# Altium integrated library Silicon Labs Energy Micro EFM32.IntLib: 240 symbols (part 3 of 34)
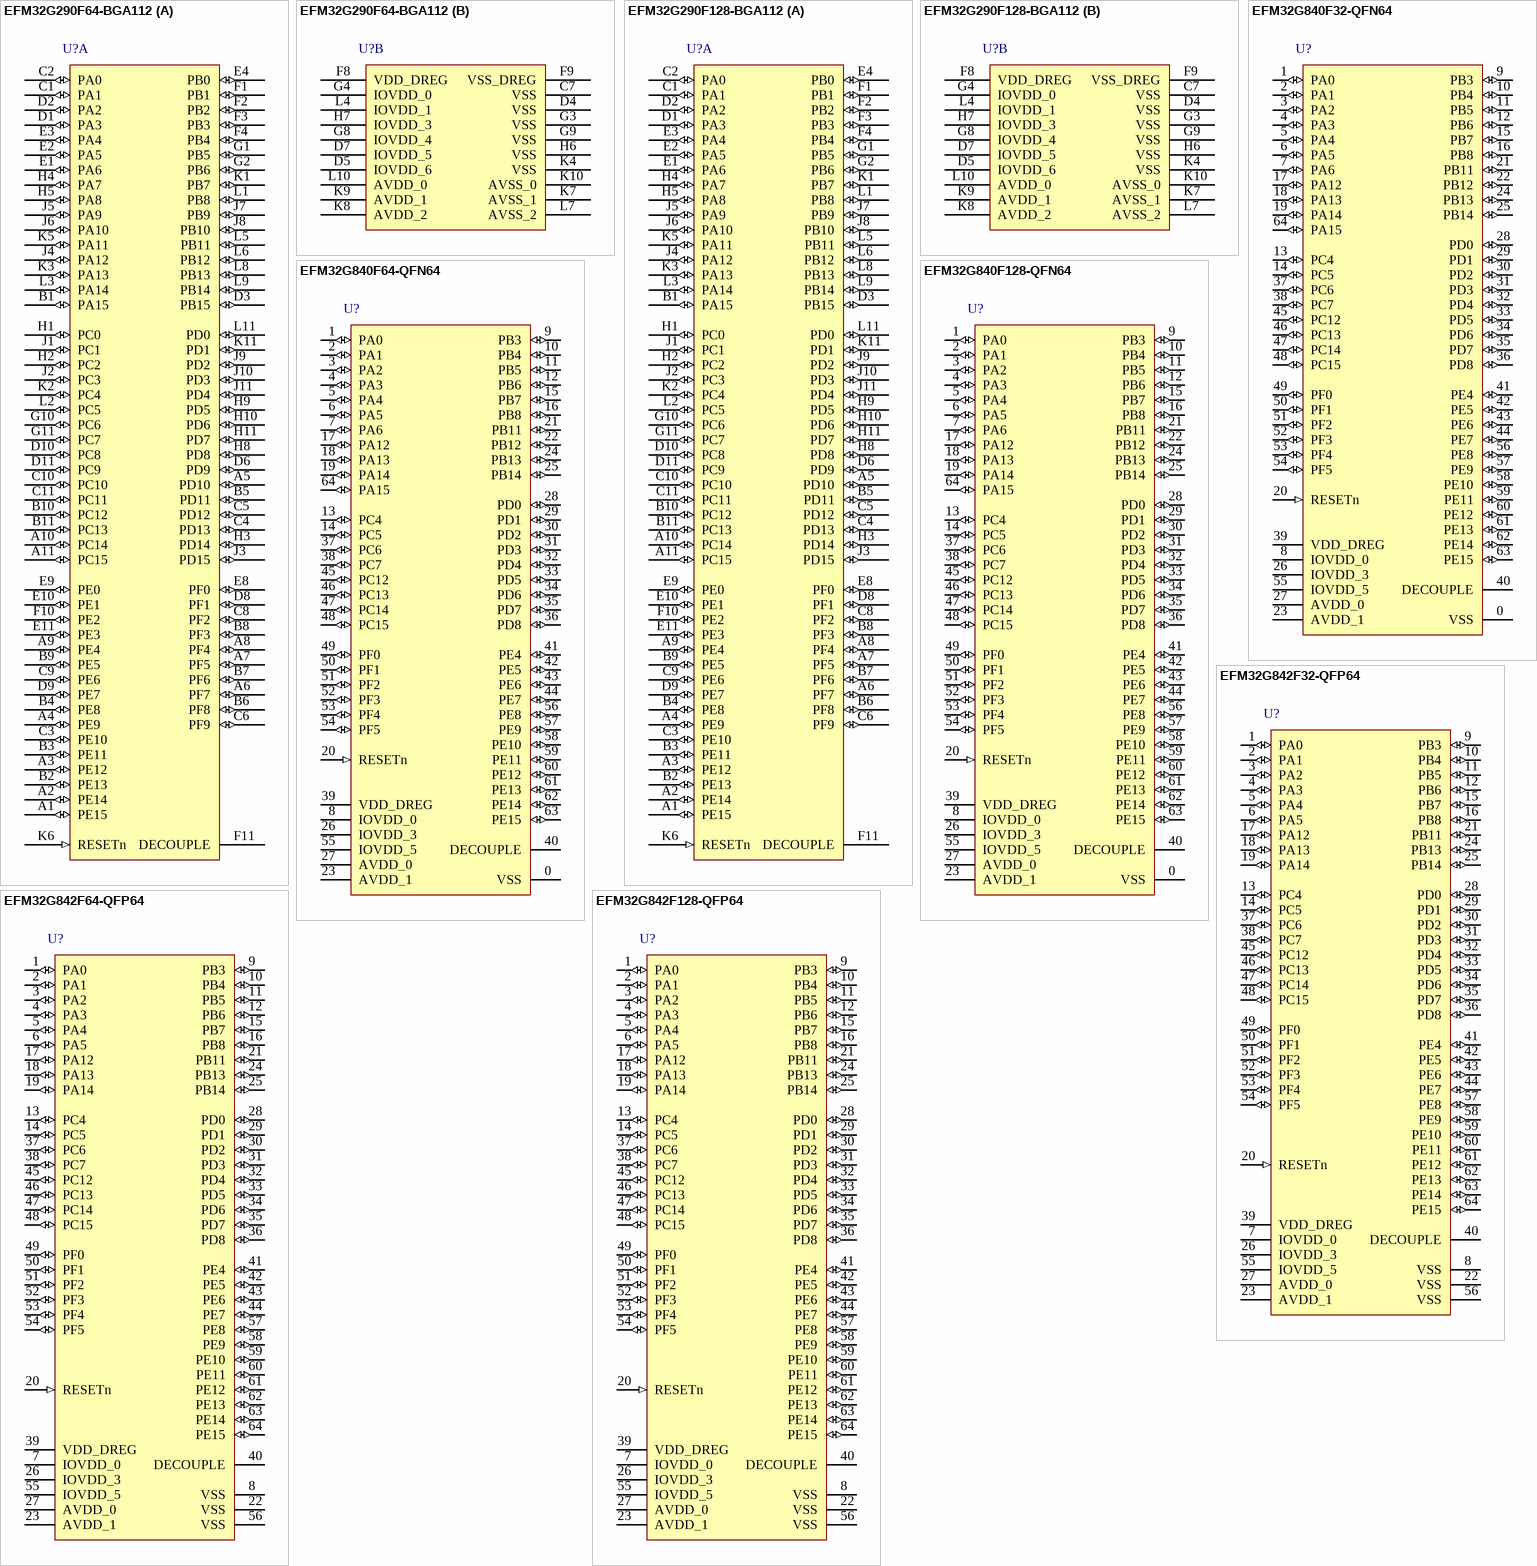
[diagram p40: symbols EFM32G290F64-BGA112 to EFM32G842F128-QFP64]

## EFM32G842F32-QFP64
designator U?
EFM32 Gecko, M3 ARM Cortex CPU, 32 KB Flash, 8 KB RAM, 1.85 - 3.8 V Supply, 32 MHz Max Speed, -40 to 85 degC, 64-Pin TQFP, RoHS Compliant; Generic Part Number: EFM32G842; PartNumber: EFM32G842F32-QFP64; ADC: Y; Flash (KB): 32; GPIO: 53; LCD: 4x24; RAM (KB): 8; DatasheetVersion: Rev 1.50; PackageVersion: Rev. 98SPP64023A_XO1_17MAR2011; PackageReference: TQFP64; PackageDescription: 64-Pin Quad Flat Package, Body 10 x 10 mm, Pitch 0.5 mm; Supplier 1: Digi-Key; Supplier Part Number 1: EFM32G842F32-ND; Supplier 2: Mouser; Supplier Part Number 2: 904-EFM32G842F32; AES: Y; ARM Cortex CPU: M3; Max Speed (MHz): 32; Subcategory: EFM32 Gecko; Supply Voltage (V): 1.85 - 3.8; Mounting Technology: Surface Mount; ComponentLink1Description: Manufacturer URL; ComponentLink1URL: http://www.energymicro.com/; ComponentLink2Description: Datasheet; ComponentLink2URL: http://cdn.energymicro.com/dl/devices/pdf/d0070_efm32g842_datasheet.pdf; ComponentLink3Description: Package Specification; ComponentLink3URL: http://cdn.energymicro.com/dl/devices/pdf/d0070_efm32g842_datasheet.pdf
footprint ENMR-TQFP64_N (QFP, 64-Leads, Body 10x10mm, Pitch 0.5mm, IPC Medium Density)
footprint ENMR-TQFP64_L (QFP, 64-Leads, Body 10x10mm, Pitch 0.5mm, IPC High Density)
footprint ENMR-TQFP64_M (QFP, 64-Leads, Body 10x10mm, Pitch 0.5mm, IPC Low Density)
pins: 1 PA0 (io) "LCD_SEG13, TIM0_CC0#0/1, I2C0_SDA#0", 2 PA1 (io) "LCD_SEG14, TIM0_CC1#0/1, I2C0_SCL#0, CMU_CLK1#0", 3 PA2 (io) "LCD_SEG15, TIM0_CC2#0/1, CMU_CLK0#0", 4 PA3 (io) "LCD_SEG16, TIM0_CDTI0#0", 5 PA4 (io) "LCD_SEG17, TIM0_CDTI1#0", 6 PA5 (io) "LCD_SEG18, TIM0_CDTI2#0, LEU1_TX#1", 7 IOVDD_0 (power) "Digital IO power supply 0.", 8 VSS (power) "Ground", 9 PB3 (io) "LCD_SEG20, PCNT1_S0IN#1, US2_TX#1", 10 PB4 (io) "LCD_SEG21, PCNT1_S1IN#1, US2_RX#1", 11 PB5 (io) "LCD_SEG22, US2_CLK#1", 12 PB6 (io) "LCD_SEG23, US2_CS#1", 13 PC4 (io) "ACMP0_CH4, LETIM0_OUT0#3, PCNT1_S0IN#0, US2_CLK#0", 14 PC5 (io) "ACMP0_CH5, LETIM0_OUT1#3, PCNT1_S1IN#0, US2_CS#0", 15 PB7 (io) "LFXTAL_P, US1_CLK#0", 16 PB8 (io) "LFXTAL_N, US1_CS#0", 17 PA12 (io) "LCD_BCAP_P, TIM2_CC0#1", 18 PA13 (io) "LCD_BCAP_N, TIM2_CC1#1", 19 PA14 (io) "LCD_BEXT, TIM2_CC2#1", 20 RESETn (in) "Reset input. Active low, with internal pull-up.", 21 PB11 (io) "DAC0_OUT0, LETIM0_OUT0#1", 22 VSS (power) "Ground", 23 AVDD_1 (power) "Analog power supply 1.", 24 PB13 (io) "HFXTAL_P, LEU0_TX#1", 25 PB14 (io) "HFXTAL_N, LEU0_RX#1", 26 IOVDD_3 (power) "Digital IO power supply 3.", 27 AVDD_0 (power) "Analog power supply 0.", 28 PD0 (io) "ADC0_CH0, PCNT2_S0IN#0, US1_TX#1", 29 PD1 (io) "ADC0_CH1, TIM0_CC0#3, PCNT2_S1IN#0, US1_RX#1", 30 PD2 (io) "ADC0_CH2, TIM0_CC1#3, US1_CLK#1", 31 PD3 (io) "ADC0_CH3, TIM0_CC2#3, US1_CS#1", 32 PD4 (io) "ADC0_CH4, LEU0_TX#0", 33 PD5 (io) "ADC0_CH5, LEU0_RX#0", 34 PD6 (io) "ADC0_CH6, LETIM0_OUT0#0, I2C0_SDA#1", 35 PD7 (io) "ADC0_CH7, LETIM0_OUT1#0, I2C0_SCL#1", 36 PD8 (io) "CMU_CLK1#1", 37 PC6 (io) "ACMP0_CH6, LEU1_TX#0, I2C0_SDA#2", 38 PC7 (io) "ACMP0_CH7, LEU1_RX#0, I2C0_SCL#2", 39 VDD_DREG (power) "Power supply for on-chip voltage regulator.", 40 DECOUPLE "Decouple output for on-chip voltage regulator. An external capacitance of size CDECOUPLE is required at this pin.", 41 PE4 (io) "LCD_COM0, US0_CS#1", 42 PE5 (io) "LCD_COM1, US0_CLK#1", 43 PE6 (io) "LCD_COM2, US0_RX#1", 44 PE7 (io) "LCD_COM3, US0_TX#1", 45 PC12 (io) "ACMP1_CH4, CMU_CLK0#1", 46 PC13 (io) "ACMP1_CH5, TIM0_CDTI0#1/3, TIM1_CC0#0, PCNT0_S0IN#0", 47 PC14 (io) "ACMP1_CH6, TIM0_CDTI1#1/3, TIM1_CC1#0, PCNT0_S1IN#0", 48 PC15 (io) "ACMP1_CH7, TIM0_CDTI2#1/3, TIM1_CC2#0, DBG_SWO#1", 49 PF0 (io) "LETIM0_OUT0#2, DBG_SWCLK#0/1", 50 PF1 (io) "LETIM0_OUT1#2, DBG_SWDIO#0/1", 51 PF2 (io) "LCD_SEG0, ACMP1_O#0, DBG_SWO#0", 52 PF3 (io) "LCD_SEG1, TIM0_CDTI0#2", 53 PF4 (io) "LCD_SEG2, TIM0_CDTI1#2", 54 PF5 (io) "LCD_SEG3, TIM0_CDTI2#2", 55 IOVDD_5 (power) "Digital IO power supply 5.", 56 VSS (power) "Ground", 57 PE8 (io) "LCD_SEG4, PCNT2_S0IN#1", 58 PE9 (io) "LCD_SEG5, PCNT2_S1IN#1", 59 PE10 (io) "LCD_SEG6, TIM1_CC0#1, US0_TX#0", 60 PE11 (io) "LCD_SEG7, TIM1_CC1#1, US0_RX#0", 61 PE12 (io) "LCD_SEG8, TIM1_CC2#1, US0_CLK#0", 62 PE13 (io) "LCD_SEG9, US0_CS#0, ACMP0_O#0", 63 PE14 (io) "LCD_SEG10, LEU0_TX#2", 64 PE15 (io) "LCD_SEG11, LEU0_RX#2"

## EFM32G842F64-QFP64
designator U?
EFM32 Gecko, M3 ARM Cortex CPU, 64 KB Flash, 16 KB RAM, 1.85 - 3.8 V Supply, 32 MHz Max Speed, -40 to 85 degC, 64-Pin TQFP, RoHS Compliant; Generic Part Number: EFM32G842; PartNumber: EFM32G842F64-QFP64; ADC: Y; Flash (KB): 64; GPIO: 53; LCD: 4x24; Max Speed (MHz): 32; RAM (KB): 16; DatasheetVersion: Rev 1.50; PackageVersion: Rev. 98SPP64023A_XO1_17MAR2011; PackageReference: TQFP64; PackageDescription: 64-Pin Quad Flat Package, Body 10 x 10 mm, Pitch 0.5 mm; Supplier 1: Digi-Key; Supplier Part Number 1: EFM32G842F64-ND; Supplier 2: Mouser; Supplier Part Number 2: 904-EFM32G842F64; AES: Y; ARM Cortex CPU: M3; Subcategory: EFM32 Gecko; Supply Voltage (V): 1.85 - 3.8; Mounting Technology: Surface Mount; ComponentLink1Description: Manufacturer URL; ComponentLink1URL: http://www.energymicro.com/; ComponentLink2Description: Datasheet; ComponentLink2URL: http://cdn.energymicro.com/dl/devices/pdf/d0070_efm32g842_datasheet.pdf; ComponentLink3Description: Package Specification; ComponentLink3URL: http://cdn.energymicro.com/dl/devices/pdf/d0070_efm32g842_datasheet.pdf
footprint ENMR-TQFP64_N (QFP, 64-Leads, Body 10x10mm, Pitch 0.5mm, IPC Medium Density)
footprint ENMR-TQFP64_L (QFP, 64-Leads, Body 10x10mm, Pitch 0.5mm, IPC High Density)
footprint ENMR-TQFP64_M (QFP, 64-Leads, Body 10x10mm, Pitch 0.5mm, IPC Low Density)
pins: 1 PA0 (io) "LCD_SEG13, TIM0_CC0#0/1, I2C0_SDA#0", 2 PA1 (io) "LCD_SEG14, TIM0_CC1#0/1, I2C0_SCL#0, CMU_CLK1#0", 3 PA2 (io) "LCD_SEG15, TIM0_CC2#0/1, CMU_CLK0#0", 4 PA3 (io) "LCD_SEG16, TIM0_CDTI0#0", 5 PA4 (io) "LCD_SEG17, TIM0_CDTI1#0", 6 PA5 (io) "LCD_SEG18, TIM0_CDTI2#0, LEU1_TX#1", 7 IOVDD_0 (power) "Digital IO power supply 0.", 8 VSS (power) "Ground", 9 PB3 (io) "LCD_SEG20, PCNT1_S0IN#1, US2_TX#1", 10 PB4 (io) "LCD_SEG21, PCNT1_S1IN#1, US2_RX#1", 11 PB5 (io) "LCD_SEG22, US2_CLK#1", 12 PB6 (io) "LCD_SEG23, US2_CS#1", 13 PC4 (io) "ACMP0_CH4, LETIM0_OUT0#3, PCNT1_S0IN#0, US2_CLK#0", 14 PC5 (io) "ACMP0_CH5, LETIM0_OUT1#3, PCNT1_S1IN#0, US2_CS#0", 15 PB7 (io) "LFXTAL_P, US1_CLK#0", 16 PB8 (io) "LFXTAL_N, US1_CS#0", 17 PA12 (io) "LCD_BCAP_P, TIM2_CC0#1", 18 PA13 (io) "LCD_BCAP_N, TIM2_CC1#1", 19 PA14 (io) "LCD_BEXT, TIM2_CC2#1", 20 RESETn (in) "Reset input. Active low, with internal pull-up.", 21 PB11 (io) "DAC0_OUT0, LETIM0_OUT0#1", 22 VSS (power) "Ground", 23 AVDD_1 (power) "Analog power supply 1.", 24 PB13 (io) "HFXTAL_P, LEU0_TX#1", 25 PB14 (io) "HFXTAL_N, LEU0_RX#1", 26 IOVDD_3 (power) "Digital IO power supply 3.", 27 AVDD_0 (power) "Analog power supply 0.", 28 PD0 (io) "ADC0_CH0, PCNT2_S0IN#0, US1_TX#1", 29 PD1 (io) "ADC0_CH1, TIM0_CC0#3, PCNT2_S1IN#0, US1_RX#1", 30 PD2 (io) "ADC0_CH2, TIM0_CC1#3, US1_CLK#1", 31 PD3 (io) "ADC0_CH3, TIM0_CC2#3, US1_CS#1", 32 PD4 (io) "ADC0_CH4, LEU0_TX#0", 33 PD5 (io) "ADC0_CH5, LEU0_RX#0", 34 PD6 (io) "ADC0_CH6, LETIM0_OUT0#0, I2C0_SDA#1", 35 PD7 (io) "ADC0_CH7, LETIM0_OUT1#0, I2C0_SCL#1", 36 PD8 (io) "CMU_CLK1#1", 37 PC6 (io) "ACMP0_CH6, LEU1_TX#0, I2C0_SDA#2", 38 PC7 (io) "ACMP0_CH7, LEU1_RX#0, I2C0_SCL#2", 39 VDD_DREG (power) "Power supply for on-chip voltage regulator.", 40 DECOUPLE "Decouple output for on-chip voltage regulator. An external capacitance of size CDECOUPLE is required at this pin.", 41 PE4 (io) "LCD_COM0, US0_CS#1", 42 PE5 (io) "LCD_COM1, US0_CLK#1", 43 PE6 (io) "LCD_COM2, US0_RX#1", 44 PE7 (io) "LCD_COM3, US0_TX#1", 45 PC12 (io) "ACMP1_CH4, CMU_CLK0#1", 46 PC13 (io) "ACMP1_CH5, TIM0_CDTI0#1/3, TIM1_CC0#0, PCNT0_S0IN#0", 47 PC14 (io) "ACMP1_CH6, TIM0_CDTI1#1/3, TIM1_CC1#0, PCNT0_S1IN#0", 48 PC15 (io) "ACMP1_CH7, TIM0_CDTI2#1/3, TIM1_CC2#0, DBG_SWO#1", 49 PF0 (io) "LETIM0_OUT0#2, DBG_SWCLK#0/1", 50 PF1 (io) "LETIM0_OUT1#2, DBG_SWDIO#0/1", 51 PF2 (io) "LCD_SEG0, ACMP1_O#0, DBG_SWO#0", 52 PF3 (io) "LCD_SEG1, TIM0_CDTI0#2", 53 PF4 (io) "LCD_SEG2, TIM0_CDTI1#2", 54 PF5 (io) "LCD_SEG3, TIM0_CDTI2#2", 55 IOVDD_5 (power) "Digital IO power supply 5.", 56 VSS (power) "Ground", 57 PE8 (io) "LCD_SEG4, PCNT2_S0IN#1", 58 PE9 (io) "LCD_SEG5, PCNT2_S1IN#1", 59 PE10 (io) "LCD_SEG6, TIM1_CC0#1, US0_TX#0", 60 PE11 (io) "LCD_SEG7, TIM1_CC1#1, US0_RX#0", 61 PE12 (io) "LCD_SEG8, TIM1_CC2#1, US0_CLK#0", 62 PE13 (io) "LCD_SEG9, US0_CS#0, ACMP0_O#0", 63 PE14 (io) "LCD_SEG10, LEU0_TX#2", 64 PE15 (io) "LCD_SEG11, LEU0_RX#2"

## EFM32G842F128-QFP64
designator U?
EFM32 Gecko, M3 ARM Cortex CPU, 128 KB Flash, 16 KB RAM, 1.85 - 3.8 V Supply, 32 MHz Max Speed, -40 to 85 degC, 64-Pin TQFP, RoHS Compliant; Generic Part Number: EFM32G842; PartNumber: EFM32G842F128-QFP64; ADC: Y; Flash (KB): 128; GPIO: 53; LCD: 4x24; Max Speed (MHz): 32; RAM (KB): 16; DatasheetVersion: Rev 1.50; PackageVersion: Rev. 98SPP64023A_XO1_17MAR2011; PackageReference: TQFP64; PackageDescription: 64-Pin Quad Flat Package, Body 10 x 10 mm, Pitch 0.5 mm; Supplier 1: Digi-Key; Supplier Part Number 1: 914-1028-2-ND; Supplier 2: Digi-Key; Supplier Part Number 2: 914-1028-1-ND; Supplier 3: Digi-Key; Supplier Part Number 3: 914-1028-6-ND; Supplier 4: Mouser; Supplier Part Number 4: 904-EFM32G842F128; AES: Y; ARM Cortex CPU: M3; Subcategory: EFM32 Gecko; Supply Voltage (V): 1.85 - 3.8; Mounting Technology: Surface Mount; ComponentLink1Description: Manufacturer URL; ComponentLink1URL: http://www.energymicro.com/; ComponentLink2Description: Datasheet; ComponentLink2URL: http://cdn.energymicro.com/dl/devices/pdf/d0070_efm32g842_datasheet.pdf; ComponentLink3Description: Package Specification; ComponentLink3URL: http://cdn.energymicro.com/dl/devices/pdf/d0070_efm32g842_datasheet.pdf
footprint ENMR-TQFP64_N (QFP, 64-Leads, Body 10x10mm, Pitch 0.5mm, IPC Medium Density)
footprint ENMR-TQFP64_L (QFP, 64-Leads, Body 10x10mm, Pitch 0.5mm, IPC High Density)
footprint ENMR-TQFP64_M (QFP, 64-Leads, Body 10x10mm, Pitch 0.5mm, IPC Low Density)
pins: 1 PA0 (io) "LCD_SEG13, TIM0_CC0#0/1, I2C0_SDA#0", 2 PA1 (io) "LCD_SEG14, TIM0_CC1#0/1, I2C0_SCL#0, CMU_CLK1#0", 3 PA2 (io) "LCD_SEG15, TIM0_CC2#0/1, CMU_CLK0#0", 4 PA3 (io) "LCD_SEG16, TIM0_CDTI0#0", 5 PA4 (io) "LCD_SEG17, TIM0_CDTI1#0", 6 PA5 (io) "LCD_SEG18, TIM0_CDTI2#0, LEU1_TX#1", 7 IOVDD_0 (power) "Digital IO power supply 0.", 8 VSS (power) "Ground", 9 PB3 (io) "LCD_SEG20, PCNT1_S0IN#1, US2_TX#1", 10 PB4 (io) "LCD_SEG21, PCNT1_S1IN#1, US2_RX#1", 11 PB5 (io) "LCD_SEG22, US2_CLK#1", 12 PB6 (io) "LCD_SEG23, US2_CS#1", 13 PC4 (io) "ACMP0_CH4, LETIM0_OUT0#3, PCNT1_S0IN#0, US2_CLK#0", 14 PC5 (io) "ACMP0_CH5, LETIM0_OUT1#3, PCNT1_S1IN#0, US2_CS#0", 15 PB7 (io) "LFXTAL_P, US1_CLK#0", 16 PB8 (io) "LFXTAL_N, US1_CS#0", 17 PA12 (io) "LCD_BCAP_P, TIM2_CC0#1", 18 PA13 (io) "LCD_BCAP_N, TIM2_CC1#1", 19 PA14 (io) "LCD_BEXT, TIM2_CC2#1", 20 RESETn (in) "Reset input. Active low, with internal pull-up.", 21 PB11 (io) "DAC0_OUT0, LETIM0_OUT0#1", 22 VSS (power) "Ground", 23 AVDD_1 (power) "Analog power supply 1.", 24 PB13 (io) "HFXTAL_P, LEU0_TX#1", 25 PB14 (io) "HFXTAL_N, LEU0_RX#1", 26 IOVDD_3 (power) "Digital IO power supply 3.", 27 AVDD_0 (power) "Analog power supply 0.", 28 PD0 (io) "ADC0_CH0, PCNT2_S0IN#0, US1_TX#1", 29 PD1 (io) "ADC0_CH1, TIM0_CC0#3, PCNT2_S1IN#0, US1_RX#1", 30 PD2 (io) "ADC0_CH2, TIM0_CC1#3, US1_CLK#1", 31 PD3 (io) "ADC0_CH3, TIM0_CC2#3, US1_CS#1", 32 PD4 (io) "ADC0_CH4, LEU0_TX#0", 33 PD5 (io) "ADC0_CH5, LEU0_RX#0", 34 PD6 (io) "ADC0_CH6, LETIM0_OUT0#0, I2C0_SDA#1", 35 PD7 (io) "ADC0_CH7, LETIM0_OUT1#0, I2C0_SCL#1", 36 PD8 (io) "CMU_CLK1#1", 37 PC6 (io) "ACMP0_CH6, LEU1_TX#0, I2C0_SDA#2", 38 PC7 (io) "ACMP0_CH7, LEU1_RX#0, I2C0_SCL#2", 39 VDD_DREG (power) "Power supply for on-chip voltage regulator.", 40 DECOUPLE "Decouple output for on-chip voltage regulator. An external capacitance of size CDECOUPLE is required at this pin.", 41 PE4 (io) "LCD_COM0, US0_CS#1", 42 PE5 (io) "LCD_COM1, US0_CLK#1", 43 PE6 (io) "LCD_COM2, US0_RX#1", 44 PE7 (io) "LCD_COM3, US0_TX#1", 45 PC12 (io) "ACMP1_CH4, CMU_CLK0#1", 46 PC13 (io) "ACMP1_CH5, TIM0_CDTI0#1/3, TIM1_CC0#0, PCNT0_S0IN#0", 47 PC14 (io) "ACMP1_CH6, TIM0_CDTI1#1/3, TIM1_CC1#0, PCNT0_S1IN#0", 48 PC15 (io) "ACMP1_CH7, TIM0_CDTI2#1/3, TIM1_CC2#0, DBG_SWO#1", 49 PF0 (io) "LETIM0_OUT0#2, DBG_SWCLK#0/1", 50 PF1 (io) "LETIM0_OUT1#2, DBG_SWDIO#0/1", 51 PF2 (io) "LCD_SEG0, ACMP1_O#0, DBG_SWO#0", 52 PF3 (io) "LCD_SEG1, TIM0_CDTI0#2", 53 PF4 (io) "LCD_SEG2, TIM0_CDTI1#2", 54 PF5 (io) "LCD_SEG3, TIM0_CDTI2#2", 55 IOVDD_5 (power) "Digital IO power supply 5.", 56 VSS (power) "Ground", 57 PE8 (io) "LCD_SEG4, PCNT2_S0IN#1", 58 PE9 (io) "LCD_SEG5, PCNT2_S1IN#1", 59 PE10 (io) "LCD_SEG6, TIM1_CC0#1, US0_TX#0", 60 PE11 (io) "LCD_SEG7, TIM1_CC1#1, US0_RX#0", 61 PE12 (io) "LCD_SEG8, TIM1_CC2#1, US0_CLK#0", 62 PE13 (io) "LCD_SEG9, US0_CS#0, ACMP0_O#0", 63 PE14 (io) "LCD_SEG10, LEU0_TX#2", 64 PE15 (io) "LCD_SEG11, LEU0_RX#2"

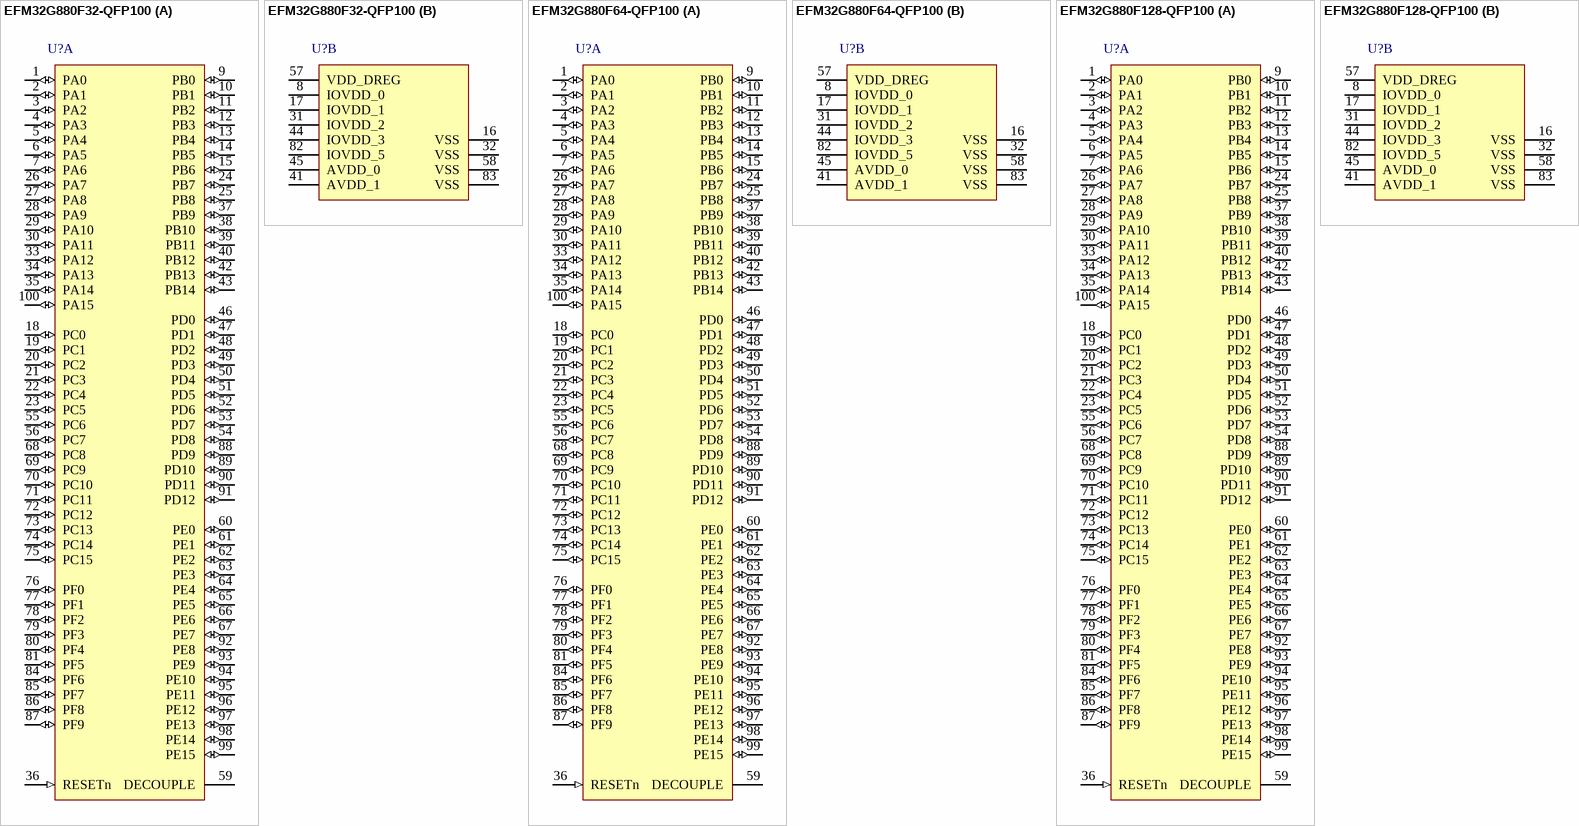
[diagram p3: symbols EFM32G880F32-QFP100 to EFM32G880F128-QFP100]

## EFM32G880F32-QFP100
designator U?
EFM32 Gecko, M3 ARM Cortex CPU, 32 KB Flash, 8 KB RAM, 1.85 - 3.8 V Supply, 32 MHz Max Speed, -40 to 85 degC, 100-Pin LQFP, RoHS Compliant; Generic Part Number: EFM32G880; PartNumber: EFM32G880F32-QFP100; ADC: Y; Flash (KB): 32; GPIO: 86; LCD: 4x40; RAM (KB): 8; DatasheetVersion: Rev 1.50; PackageVersion: Rev. 98A0100QP043_03MAY2007; PackageReference: LQFP100; PackageDescription: 100-Pin Low rofile Quad Flat Package, Body 14 x 14 mm, Pitch 0.5 mm; Supplier 1: Digi-Key; Supplier Part Number 1: EFM32G880F32-ND; Supplier 2: Mouser; Supplier Part Number 2: 904-EFM32G880F32; AES: Y; ARM Cortex CPU: M3; Max Speed (MHz): 32; Subcategory: EFM32 Gecko; Supply Voltage (V): 1.85 - 3.8; Mounting Technology: Surface Mount; ComponentLink1Description: Manufacturer URL; ComponentLink1URL: http://www.energymicro.com/; ComponentLink2Description: Datasheet; ComponentLink2URL: http://cdn.energymicro.com/dl/devices/pdf/d0009_efm32g880_datasheet.pdf; ComponentLink3Description: Package Specification; ComponentLink3URL: http://cdn.energymicro.com/dl/devices/pdf/d0006_efm32g280_datasheet.pdf
footprint ENMR-LQFP100_N (LQFP, 100-Leads, Body 14x14mm, Pitch 0.5mm, IPC Medium Density)
footprint ENMR-LQFP100_L (LQFP, 100-Leads, Body 14x14mm, Pitch 0.5mm, IPC High Density)
footprint ENMR-LQFP100_M (LQFP, 100-Leads, Body 14x14mm, Pitch 0.5mm, IPC Low Density)
part A pins: 1 PA0 (io) "LCD_SEG13, EBI_AD09#0, TIM0_CC0#0/1, I2C0_SDA#0", 2 PA1 (io) "LCD_SEG14, EBI_AD10#0, TIM0_CC1#0/1, I2C0_SCL#0, CMU_CLK1#0", 3 PA2 (io) "LCD_SEG15, EBI_AD11#0, TIM0_CC2#0/1, CMU_CLK0#0", 4 PA3 (io) "LCD_SEG16, EBI_AD12#0, TIM0_CDTI0#0, U0_TX#2", 5 PA4 (io) "LCD_SEG17, EBI_AD13#0, TIM0_CDTI1#0, U0_RX#2", 6 PA5 (io) "LCD_SEG18, EBI_AD14#0, TIM0_CDTI2#0, LEU1_TX#1", 7 PA6 (io) "LCD_SEG19, EBI_AD15#0, LEU1_RX#1", 9 PB0 (io) "LCD_SEG32, TIM1_CC0#2", 10 PB1 (io) "LCD_SEG33, TIM1_CC1#2", 11 PB2 (io) "LCD_SEG34, TIM1_CC2#2", 12 PB3 (io) "LCD_SEG20, PCNT1_S0IN#1, US2_TX#1", 13 PB4 (io) "LCD_SEG21, PCNT1_S1IN#1, US2_RX#1", 14 PB5 (io) "LCD_SEG22, US2_CLK#1", 15 PB6 (io) "LCD_SEG23, US2_CS#1", 18 PC0 (io) "ACMP0_CH0, PCNT0_S0IN#2, US1_TX#0", 19 PC1 (io) "ACMP0_CH1, PCNT0_S1IN#2, US1_RX#0", 20 PC2 (io) "ACMP0_CH2, US2_TX#0", 21 PC3 (io) "ACMP0_CH3, US2_RX#0", 22 PC4 (io) "ACMP0_CH4, LETIM0_OUT0#3, PCNT1_S0IN#0, US2_CLK#0", 23 PC5 (io) "ACMP0_CH5, LETIM0_OUT1#3, PCNT1_S1IN#0, US2_CS#0", 24 PB7 (io) "LFXTAL_P, US1_CLK#0", 25 PB8 (io) "LFXTAL_N, US1_CS#0", 26 PA7 (io) "LCD_SEG35", 27 PA8 (io) "LCD_SEG36, TIM2_CC0#0", 28 PA9 (io) "LCD_SEG37, TIM2_CC1#0", 29 PA10 (io) "LCD_SEG38, TIM2_CC2#0", 30 PA11 (io) "LCD_SEG39", 33 PA12 (io) "LCD_BCAP_P, TIM2_CC0#1", 34 PA13 (io) "LCD_BCAP_N, TIM2_CC1#1", 35 PA14 (io) "LCD_BEXT, TIM2_CC2#1", 36 RESETn (in) "Reset input. Active low with internal pull-up.", 37 PB9 (io), 38 PB10 (io), 39 PB11 (io) "DAC0_OUT0, LETIM0_OUT0#1", 40 PB12 (io) "DAC0_OUT1, LETIM0_OUT1#1", 42 PB13 (io) "HFXTAL_P, LEU0_TX#1", 43 PB14 (io) "HFXTAL_N, LEU0_RX#1", 46 PD0 (io) "ADC0_CH0, PCNT2_S0IN#0, US1_TX#1", 47 PD1 (io) "ADC0_CH1, TIM0_CC0#3, PCNT2_S1IN#0, US1_RX#1", 48 PD2 (io) "ADC0_CH2, TIM0_CC1#3, US1_CLK#1", 49 PD3 (io) "ADC0_CH3, TIM0_CC2#3, US1_CS#1", 50 PD4 (io) "ADC0_CH4, LEU0_TX#0", 51 PD5 (io) "ADC0_CH5, LEU0_RX#0", 52 PD6 (io) "ADC0_CH6, LETIM0_OUT0#0, I2C0_SDA#1", 53 PD7 (io) "ADC0_CH7, LETIM0_OUT1#0, I2C0_SCL#1", 54 PD8 (io) "CMU_CLK1#1", 55 PC6 (io) "ACMP0_CH6, LEU1_TX#0, I2C0_SDA#2", 56 PC7 (io) "ACMP0_CH7, LEU1_RX#0, I2C0_SCL#2", 59 DECOUPLE "Decouple output for on-chip voltage regulator. An external capacitance of size CDECOUPLE is required at this pin.", 60 PE0 (io) "PCNT0_S0IN#1, U0_TX#1", 61 PE1 (io) "PCNT0_S1IN#1, U0_RX#1", 62 PE2 (io) "ACMP0_O#1", 63 PE3 (io) "ACMP1_O#1", 64 PE4 (io) "LCD_COM0, US0_CS#1", 65 PE5 (io) "LCD_COM1, US0_CLK#1", 66 PE6 (io) "LCD_COM2, US0_RX#1", 67 PE7 (io) "LCD_COM3, US0_TX#1", 68 PC8 (io) "ACMP1_CH0, TIM2_CC0#2, US0_CS#2", 69 PC9 (io) "ACMP1_CH1, TIM2_CC1#2, US0_CLK#2", 70 PC10 (io) "ACMP1_CH2, TIM2_CC2#2, US0_RX#2", 71 PC11 (io) "ACMP1_CH3, US0_TX#2", 72 PC12 (io) "ACMP1_CH4, CMU_CLK0#1", 73 PC13 (io) "ACMP1_CH5, TIM0_CDTI0#1/3, TIM1_CC0#0, PCNT0_S0IN#0", 74 PC14 (io) "ACMP1_CH6, TIM0_CDTI1#1/3, TIM1_CC1#0, PCNT0_S1IN#0, U0_TX#3", 75 PC15 (io) "ACMP1_CH7, TIM0_CDTI2#1/3, TIM1_CC2#0, U0_RX#3, DBG_SWO#1", 76 PF0 (io) "LETIM0_OUT0#2, DBG_SWCLK#0/1", 77 PF1 (io) "LETIM0_OUT1#2, DBG_SWDIO#0/1", 78 PF2 (io) "LCD_SEG0, EBI_ARDY#0, ACMP1_O#0, DBG_SWO#0", 79 PF3 (io) "LCD_SEG1, EBI_ALE#0, TIM0_CDTI0#2", 80 PF4 (io) "LCD_SEG2, EBI_WEn#0, TIM0_CDTI1#2", 81 PF5 (io) "LCD_SEG3, EBI_REn#0, TIM0_CDTI2#2", 84 PF6 (io) "LCD_SEG24, TIM0_CC0#2, U0_TX#0", 85 PF7 (io) "LCD_SEG25, TIM0_CC1#2, U0_RX#0", 86 PF8 (io) "LCD_SEG26, TIM0_CC2#2", 87 PF9 (io) "LCD_SEG27", 88 PD9 (io) "LCD_SEG28, EBI_CS0#0", 89 PD10 (io) "LCD_SEG29, EBI_CS1#0", 90 PD11 (io) "LCD_SEG30, EBI_CS2#0", 91 PD12 (io) "LCD_SEG31, EBI_CS3#0", 92 PE8 (io) "LCD_SEG4, EBI_AD00#0, PCNT2_S0IN#1", 93 PE9 (io) "LCD_SEG5, EBI_AD01#0, PCNT2_S1IN#1", 94 PE10 (io) "LCD_SEG6, EBI_AD02#0, TIM1_CC0#1, US0_TX#0", 95 PE11 (io) "LCD_SEG7, EBI_AD03#0, TIM1_CC1#1, US0_RX#0", 96 PE12 (io) "LCD_SEG8, EBI_AD04#0, TIM1_CC2#1, US0_CLK#0", 97 PE13 (io) "LCD_SEG9, EBI_AD05#0, US0_CS#0, ACMP0_O#0", 98 PE14 (io) "LCD_SEG10, EBI_AD06#0, LEU0_TX#2", 99 PE15 (io) "LCD_SEG11, EBI_AD07#0, LEU0_RX#2", 100 PA15 (io) "LCD_SEG12, EBI_AD08#0"
part B pins: 8 IOVDD_0 (power) "Digital IO power supply 0.", 16 VSS (power) "Ground", 17 IOVDD_1 (power) "Digital IO power supply 1.", 31 IOVDD_2 (power) "Digital IO power supply 2.", 32 VSS (power) "Ground", 41 AVDD_1 (power) "Analog power supply 1.", 44 IOVDD_3 (power) "Digital IO power supply 3.", 45 AVDD_0 (power) "Analog power supply 0.", 57 VDD_DREG (power) "Power supply for on-chip voltage regulator.", 58 VSS (power) "Ground", 82 IOVDD_5 (power) "Digital IO power supply 5.", 83 VSS (power) "Ground"

## EFM32G880F64-QFP100
designator U?
EFM32 Gecko, M3 ARM Cortex CPU, 64 KB Flash, 16 KB RAM, 1.85 - 3.8 V Supply, 32 MHz Max Speed, -40 to 85 degC, 100-Pin LQFP, RoHS Compliant; Generic Part Number: EFM32G880; PartNumber: EFM32G880F64-QFP100; ADC: Y; Flash (KB): 64; GPIO: 86; LCD: 4x40; Max Speed (MHz): 32; RAM (KB): 16; DatasheetVersion: Rev 1.50; PackageVersion: Rev. 98A0100QP043_03MAY2007; PackageReference: LQFP100; PackageDescription: 100-Pin Low rofile Quad Flat Package, Body 14 x 14 mm, Pitch 0.5 mm; Supplier 1: Digi-Key; Supplier Part Number 1: EFM32G880F64-ND; Supplier 2: Mouser; Supplier Part Number 2: 904-EFM32G880F64; AES: Y; ARM Cortex CPU: M3; Subcategory: EFM32 Gecko; Supply Voltage (V): 1.85 - 3.8; Mounting Technology: Surface Mount; ComponentLink1Description: Manufacturer URL; ComponentLink1URL: http://www.energymicro.com/; ComponentLink2Description: Datasheet; ComponentLink2URL: http://cdn.energymicro.com/dl/devices/pdf/d0009_efm32g880_datasheet.pdf; ComponentLink3Description: Package Specification; ComponentLink3URL: http://cdn.energymicro.com/dl/devices/pdf/d0006_efm32g280_datasheet.pdf
footprint ENMR-LQFP100_N (LQFP, 100-Leads, Body 14x14mm, Pitch 0.5mm, IPC Medium Density)
footprint ENMR-LQFP100_L (LQFP, 100-Leads, Body 14x14mm, Pitch 0.5mm, IPC High Density)
footprint ENMR-LQFP100_M (LQFP, 100-Leads, Body 14x14mm, Pitch 0.5mm, IPC Low Density)
part A pins: 1 PA0 (io) "LCD_SEG13, EBI_AD09#0, TIM0_CC0#0/1, I2C0_SDA#0", 2 PA1 (io) "LCD_SEG14, EBI_AD10#0, TIM0_CC1#0/1, I2C0_SCL#0, CMU_CLK1#0", 3 PA2 (io) "LCD_SEG15, EBI_AD11#0, TIM0_CC2#0/1, CMU_CLK0#0", 4 PA3 (io) "LCD_SEG16, EBI_AD12#0, TIM0_CDTI0#0, U0_TX#2", 5 PA4 (io) "LCD_SEG17, EBI_AD13#0, TIM0_CDTI1#0, U0_RX#2", 6 PA5 (io) "LCD_SEG18, EBI_AD14#0, TIM0_CDTI2#0, LEU1_TX#1", 7 PA6 (io) "LCD_SEG19, EBI_AD15#0, LEU1_RX#1", 9 PB0 (io) "LCD_SEG32, TIM1_CC0#2", 10 PB1 (io) "LCD_SEG33, TIM1_CC1#2", 11 PB2 (io) "LCD_SEG34, TIM1_CC2#2", 12 PB3 (io) "LCD_SEG20, PCNT1_S0IN#1, US2_TX#1", 13 PB4 (io) "LCD_SEG21, PCNT1_S1IN#1, US2_RX#1", 14 PB5 (io) "LCD_SEG22, US2_CLK#1", 15 PB6 (io) "LCD_SEG23, US2_CS#1", 18 PC0 (io) "ACMP0_CH0, PCNT0_S0IN#2, US1_TX#0", 19 PC1 (io) "ACMP0_CH1, PCNT0_S1IN#2, US1_RX#0", 20 PC2 (io) "ACMP0_CH2, US2_TX#0", 21 PC3 (io) "ACMP0_CH3, US2_RX#0", 22 PC4 (io) "ACMP0_CH4, LETIM0_OUT0#3, PCNT1_S0IN#0, US2_CLK#0", 23 PC5 (io) "ACMP0_CH5, LETIM0_OUT1#3, PCNT1_S1IN#0, US2_CS#0", 24 PB7 (io) "LFXTAL_P, US1_CLK#0", 25 PB8 (io) "LFXTAL_N, US1_CS#0", 26 PA7 (io) "LCD_SEG35", 27 PA8 (io) "LCD_SEG36, TIM2_CC0#0", 28 PA9 (io) "LCD_SEG37, TIM2_CC1#0", 29 PA10 (io) "LCD_SEG38, TIM2_CC2#0", 30 PA11 (io) "LCD_SEG39", 33 PA12 (io) "LCD_BCAP_P, TIM2_CC0#1", 34 PA13 (io) "LCD_BCAP_N, TIM2_CC1#1", 35 PA14 (io) "LCD_BEXT, TIM2_CC2#1", 36 RESETn (in) "Reset input. Active low with internal pull-up.", 37 PB9 (io), 38 PB10 (io), 39 PB11 (io) "DAC0_OUT0, LETIM0_OUT0#1", 40 PB12 (io) "DAC0_OUT1, LETIM0_OUT1#1", 42 PB13 (io) "HFXTAL_P, LEU0_TX#1", 43 PB14 (io) "HFXTAL_N, LEU0_RX#1", 46 PD0 (io) "ADC0_CH0, PCNT2_S0IN#0, US1_TX#1", 47 PD1 (io) "ADC0_CH1, TIM0_CC0#3, PCNT2_S1IN#0, US1_RX#1", 48 PD2 (io) "ADC0_CH2, TIM0_CC1#3, US1_CLK#1", 49 PD3 (io) "ADC0_CH3, TIM0_CC2#3, US1_CS#1", 50 PD4 (io) "ADC0_CH4, LEU0_TX#0", 51 PD5 (io) "ADC0_CH5, LEU0_RX#0", 52 PD6 (io) "ADC0_CH6, LETIM0_OUT0#0, I2C0_SDA#1", 53 PD7 (io) "ADC0_CH7, LETIM0_OUT1#0, I2C0_SCL#1", 54 PD8 (io) "CMU_CLK1#1", 55 PC6 (io) "ACMP0_CH6, LEU1_TX#0, I2C0_SDA#2", 56 PC7 (io) "ACMP0_CH7, LEU1_RX#0, I2C0_SCL#2", 59 DECOUPLE "Decouple output for on-chip voltage regulator. An external capacitance of size CDECOUPLE is required at this pin.", 60 PE0 (io) "PCNT0_S0IN#1, U0_TX#1", 61 PE1 (io) "PCNT0_S1IN#1, U0_RX#1", 62 PE2 (io) "ACMP0_O#1", 63 PE3 (io) "ACMP1_O#1", 64 PE4 (io) "LCD_COM0, US0_CS#1", 65 PE5 (io) "LCD_COM1, US0_CLK#1", 66 PE6 (io) "LCD_COM2, US0_RX#1", 67 PE7 (io) "LCD_COM3, US0_TX#1", 68 PC8 (io) "ACMP1_CH0, TIM2_CC0#2, US0_CS#2", 69 PC9 (io) "ACMP1_CH1, TIM2_CC1#2, US0_CLK#2", 70 PC10 (io) "ACMP1_CH2, TIM2_CC2#2, US0_RX#2", 71 PC11 (io) "ACMP1_CH3, US0_TX#2", 72 PC12 (io) "ACMP1_CH4, CMU_CLK0#1", 73 PC13 (io) "ACMP1_CH5, TIM0_CDTI0#1/3, TIM1_CC0#0, PCNT0_S0IN#0", 74 PC14 (io) "ACMP1_CH6, TIM0_CDTI1#1/3, TIM1_CC1#0, PCNT0_S1IN#0, U0_TX#3", 75 PC15 (io) "ACMP1_CH7, TIM0_CDTI2#1/3, TIM1_CC2#0, U0_RX#3, DBG_SWO#1", 76 PF0 (io) "LETIM0_OUT0#2, DBG_SWCLK#0/1", 77 PF1 (io) "LETIM0_OUT1#2, DBG_SWDIO#0/1", 78 PF2 (io) "LCD_SEG0, EBI_ARDY#0, ACMP1_O#0, DBG_SWO#0", 79 PF3 (io) "LCD_SEG1, EBI_ALE#0, TIM0_CDTI0#2", 80 PF4 (io) "LCD_SEG2, EBI_WEn#0, TIM0_CDTI1#2", 81 PF5 (io) "LCD_SEG3, EBI_REn#0, TIM0_CDTI2#2", 84 PF6 (io) "LCD_SEG24, TIM0_CC0#2, U0_TX#0", 85 PF7 (io) "LCD_SEG25, TIM0_CC1#2, U0_RX#0", 86 PF8 (io) "LCD_SEG26, TIM0_CC2#2", 87 PF9 (io) "LCD_SEG27", 88 PD9 (io) "LCD_SEG28, EBI_CS0#0", 89 PD10 (io) "LCD_SEG29, EBI_CS1#0", 90 PD11 (io) "LCD_SEG30, EBI_CS2#0", 91 PD12 (io) "LCD_SEG31, EBI_CS3#0", 92 PE8 (io) "LCD_SEG4, EBI_AD00#0, PCNT2_S0IN#1", 93 PE9 (io) "LCD_SEG5, EBI_AD01#0, PCNT2_S1IN#1", 94 PE10 (io) "LCD_SEG6, EBI_AD02#0, TIM1_CC0#1, US0_TX#0", 95 PE11 (io) "LCD_SEG7, EBI_AD03#0, TIM1_CC1#1, US0_RX#0", 96 PE12 (io) "LCD_SEG8, EBI_AD04#0, TIM1_CC2#1, US0_CLK#0", 97 PE13 (io) "LCD_SEG9, EBI_AD05#0, US0_CS#0, ACMP0_O#0", 98 PE14 (io) "LCD_SEG10, EBI_AD06#0, LEU0_TX#2", 99 PE15 (io) "LCD_SEG11, EBI_AD07#0, LEU0_RX#2", 100 PA15 (io) "LCD_SEG12, EBI_AD08#0"
part B pins: 8 IOVDD_0 (power) "Digital IO power supply 0.", 16 VSS (power) "Ground", 17 IOVDD_1 (power) "Digital IO power supply 1.", 31 IOVDD_2 (power) "Digital IO power supply 2.", 32 VSS (power) "Ground", 41 AVDD_1 (power) "Analog power supply 1.", 44 IOVDD_3 (power) "Digital IO power supply 3.", 45 AVDD_0 (power) "Analog power supply 0.", 57 VDD_DREG (power) "Power supply for on-chip voltage regulator.", 58 VSS (power) "Ground", 82 IOVDD_5 (power) "Digital IO power supply 5.", 83 VSS (power) "Ground"

## EFM32G880F128-QFP100
designator U?
EFM32 Gecko, M3 ARM Cortex CPU, 128 KB Flash, 16 KB RAM, 1.85 - 3.8 V Supply, 32 MHz Max Speed, -40 to 85 degC, 100-Pin LQFP, RoHS Compliant; Generic Part Number: EFM32G880; PartNumber: EFM32G880F128-QFP100; ADC: Y; Flash (KB): 128; GPIO: 86; LCD: 4x40; Max Speed (MHz): 32; RAM (KB): 16; DatasheetVersion: Rev 1.50; PackageVersion: Rev. 98A0100QP043_03MAY2007; PackageReference: LQFP100; PackageDescription: 100-Pin Low rofile Quad Flat Package, Body 14 x 14 mm, Pitch 0.5 mm; Supplier 1: Digi-Key; Supplier Part Number 1: 914-1016-2-ND; Supplier 2: Digi-Key; Supplier Part Number 2: 914-1016-1-ND; Supplier 3: Digi-Key; Supplier Part Number 3: 914-1016-6-ND; Supplier 4: Mouser; Supplier Part Number 4: 904-EFM32G880F128; AES: Y; ARM Cortex CPU: M3; Subcategory: EFM32 Gecko; Supply Voltage (V): 1.85 - 3.8; Mounting Technology: Surface Mount; ComponentLink1Description: Manufacturer URL; ComponentLink1URL: http://www.energymicro.com/; ComponentLink2Description: Datasheet; ComponentLink2URL: http://cdn.energymicro.com/dl/devices/pdf/d0009_efm32g880_datasheet.pdf; ComponentLink3Description: Package Specification; ComponentLink3URL: http://cdn.energymicro.com/dl/devices/pdf/d0006_efm32g280_datasheet.pdf
footprint ENMR-LQFP100_N (LQFP, 100-Leads, Body 14x14mm, Pitch 0.5mm, IPC Medium Density)
footprint ENMR-LQFP100_L (LQFP, 100-Leads, Body 14x14mm, Pitch 0.5mm, IPC High Density)
footprint ENMR-LQFP100_M (LQFP, 100-Leads, Body 14x14mm, Pitch 0.5mm, IPC Low Density)
part A pins: 1 PA0 (io) "LCD_SEG13, EBI_AD09#0, TIM0_CC0#0/1, I2C0_SDA#0", 2 PA1 (io) "LCD_SEG14, EBI_AD10#0, TIM0_CC1#0/1, I2C0_SCL#0, CMU_CLK1#0", 3 PA2 (io) "LCD_SEG15, EBI_AD11#0, TIM0_CC2#0/1, CMU_CLK0#0", 4 PA3 (io) "LCD_SEG16, EBI_AD12#0, TIM0_CDTI0#0, U0_TX#2", 5 PA4 (io) "LCD_SEG17, EBI_AD13#0, TIM0_CDTI1#0, U0_RX#2", 6 PA5 (io) "LCD_SEG18, EBI_AD14#0, TIM0_CDTI2#0, LEU1_TX#1", 7 PA6 (io) "LCD_SEG19, EBI_AD15#0, LEU1_RX#1", 9 PB0 (io) "LCD_SEG32, TIM1_CC0#2", 10 PB1 (io) "LCD_SEG33, TIM1_CC1#2", 11 PB2 (io) "LCD_SEG34, TIM1_CC2#2", 12 PB3 (io) "LCD_SEG20, PCNT1_S0IN#1, US2_TX#1", 13 PB4 (io) "LCD_SEG21, PCNT1_S1IN#1, US2_RX#1", 14 PB5 (io) "LCD_SEG22, US2_CLK#1", 15 PB6 (io) "LCD_SEG23, US2_CS#1", 18 PC0 (io) "ACMP0_CH0, PCNT0_S0IN#2, US1_TX#0", 19 PC1 (io) "ACMP0_CH1, PCNT0_S1IN#2, US1_RX#0", 20 PC2 (io) "ACMP0_CH2, US2_TX#0", 21 PC3 (io) "ACMP0_CH3, US2_RX#0", 22 PC4 (io) "ACMP0_CH4, LETIM0_OUT0#3, PCNT1_S0IN#0, US2_CLK#0", 23 PC5 (io) "ACMP0_CH5, LETIM0_OUT1#3, PCNT1_S1IN#0, US2_CS#0", 24 PB7 (io) "LFXTAL_P, US1_CLK#0", 25 PB8 (io) "LFXTAL_N, US1_CS#0", 26 PA7 (io) "LCD_SEG35", 27 PA8 (io) "LCD_SEG36, TIM2_CC0#0", 28 PA9 (io) "LCD_SEG37, TIM2_CC1#0", 29 PA10 (io) "LCD_SEG38, TIM2_CC2#0", 30 PA11 (io) "LCD_SEG39", 33 PA12 (io) "LCD_BCAP_P, TIM2_CC0#1", 34 PA13 (io) "LCD_BCAP_N, TIM2_CC1#1", 35 PA14 (io) "LCD_BEXT, TIM2_CC2#1", 36 RESETn (in) "Reset input. Active low with internal pull-up.", 37 PB9 (io), 38 PB10 (io), 39 PB11 (io) "DAC0_OUT0, LETIM0_OUT0#1", 40 PB12 (io) "DAC0_OUT1, LETIM0_OUT1#1", 42 PB13 (io) "HFXTAL_P, LEU0_TX#1", 43 PB14 (io) "HFXTAL_N, LEU0_RX#1", 46 PD0 (io) "ADC0_CH0, PCNT2_S0IN#0, US1_TX#1", 47 PD1 (io) "ADC0_CH1, TIM0_CC0#3, PCNT2_S1IN#0, US1_RX#1", 48 PD2 (io) "ADC0_CH2, TIM0_CC1#3, US1_CLK#1", 49 PD3 (io) "ADC0_CH3, TIM0_CC2#3, US1_CS#1", 50 PD4 (io) "ADC0_CH4, LEU0_TX#0", 51 PD5 (io) "ADC0_CH5, LEU0_RX#0", 52 PD6 (io) "ADC0_CH6, LETIM0_OUT0#0, I2C0_SDA#1", 53 PD7 (io) "ADC0_CH7, LETIM0_OUT1#0, I2C0_SCL#1", 54 PD8 (io) "CMU_CLK1#1", 55 PC6 (io) "ACMP0_CH6, LEU1_TX#0, I2C0_SDA#2", 56 PC7 (io) "ACMP0_CH7, LEU1_RX#0, I2C0_SCL#2", 59 DECOUPLE "Decouple output for on-chip voltage regulator. An external capacitance of size CDECOUPLE is required at this pin.", 60 PE0 (io) "PCNT0_S0IN#1, U0_TX#1", 61 PE1 (io) "PCNT0_S1IN#1, U0_RX#1", 62 PE2 (io) "ACMP0_O#1", 63 PE3 (io) "ACMP1_O#1", 64 PE4 (io) "LCD_COM0, US0_CS#1", 65 PE5 (io) "LCD_COM1, US0_CLK#1", 66 PE6 (io) "LCD_COM2, US0_RX#1", 67 PE7 (io) "LCD_COM3, US0_TX#1", 68 PC8 (io) "ACMP1_CH0, TIM2_CC0#2, US0_CS#2", 69 PC9 (io) "ACMP1_CH1, TIM2_CC1#2, US0_CLK#2", 70 PC10 (io) "ACMP1_CH2, TIM2_CC2#2, US0_RX#2", 71 PC11 (io) "ACMP1_CH3, US0_TX#2", 72 PC12 (io) "ACMP1_CH4, CMU_CLK0#1", 73 PC13 (io) "ACMP1_CH5, TIM0_CDTI0#1/3, TIM1_CC0#0, PCNT0_S0IN#0", 74 PC14 (io) "ACMP1_CH6, TIM0_CDTI1#1/3, TIM1_CC1#0, PCNT0_S1IN#0, U0_TX#3", 75 PC15 (io) "ACMP1_CH7, TIM0_CDTI2#1/3, TIM1_CC2#0, U0_RX#3, DBG_SWO#1", 76 PF0 (io) "LETIM0_OUT0#2, DBG_SWCLK#0/1", 77 PF1 (io) "LETIM0_OUT1#2, DBG_SWDIO#0/1", 78 PF2 (io) "LCD_SEG0, EBI_ARDY#0, ACMP1_O#0, DBG_SWO#0", 79 PF3 (io) "LCD_SEG1, EBI_ALE#0, TIM0_CDTI0#2", 80 PF4 (io) "LCD_SEG2, EBI_WEn#0, TIM0_CDTI1#2", 81 PF5 (io) "LCD_SEG3, EBI_REn#0, TIM0_CDTI2#2", 84 PF6 (io) "LCD_SEG24, TIM0_CC0#2, U0_TX#0", 85 PF7 (io) "LCD_SEG25, TIM0_CC1#2, U0_RX#0", 86 PF8 (io) "LCD_SEG26, TIM0_CC2#2", 87 PF9 (io) "LCD_SEG27", 88 PD9 (io) "LCD_SEG28, EBI_CS0#0", 89 PD10 (io) "LCD_SEG29, EBI_CS1#0", 90 PD11 (io) "LCD_SEG30, EBI_CS2#0", 91 PD12 (io) "LCD_SEG31, EBI_CS3#0", 92 PE8 (io) "LCD_SEG4, EBI_AD00#0, PCNT2_S0IN#1", 93 PE9 (io) "LCD_SEG5, EBI_AD01#0, PCNT2_S1IN#1", 94 PE10 (io) "LCD_SEG6, EBI_AD02#0, TIM1_CC0#1, US0_TX#0", 95 PE11 (io) "LCD_SEG7, EBI_AD03#0, TIM1_CC1#1, US0_RX#0", 96 PE12 (io) "LCD_SEG8, EBI_AD04#0, TIM1_CC2#1, US0_CLK#0", 97 PE13 (io) "LCD_SEG9, EBI_AD05#0, US0_CS#0, ACMP0_O#0", 98 PE14 (io) "LCD_SEG10, EBI_AD06#0, LEU0_TX#2", 99 PE15 (io) "LCD_SEG11, EBI_AD07#0, LEU0_RX#2", 100 PA15 (io) "LCD_SEG12, EBI_AD08#0"
part B pins: 8 IOVDD_0 (power) "Digital IO power supply 0.", 16 VSS (power) "Ground", 17 IOVDD_1 (power) "Digital IO power supply 1.", 31 IOVDD_2 (power) "Digital IO power supply 2.", 32 VSS (power) "Ground", 41 AVDD_1 (power) "Analog power supply 1.", 44 IOVDD_3 (power) "Digital IO power supply 3.", 45 AVDD_0 (power) "Analog power supply 0.", 57 VDD_DREG (power) "Power supply for on-chip voltage regulator.", 58 VSS (power) "Ground", 82 IOVDD_5 (power) "Digital IO power supply 5.", 83 VSS (power) "Ground"

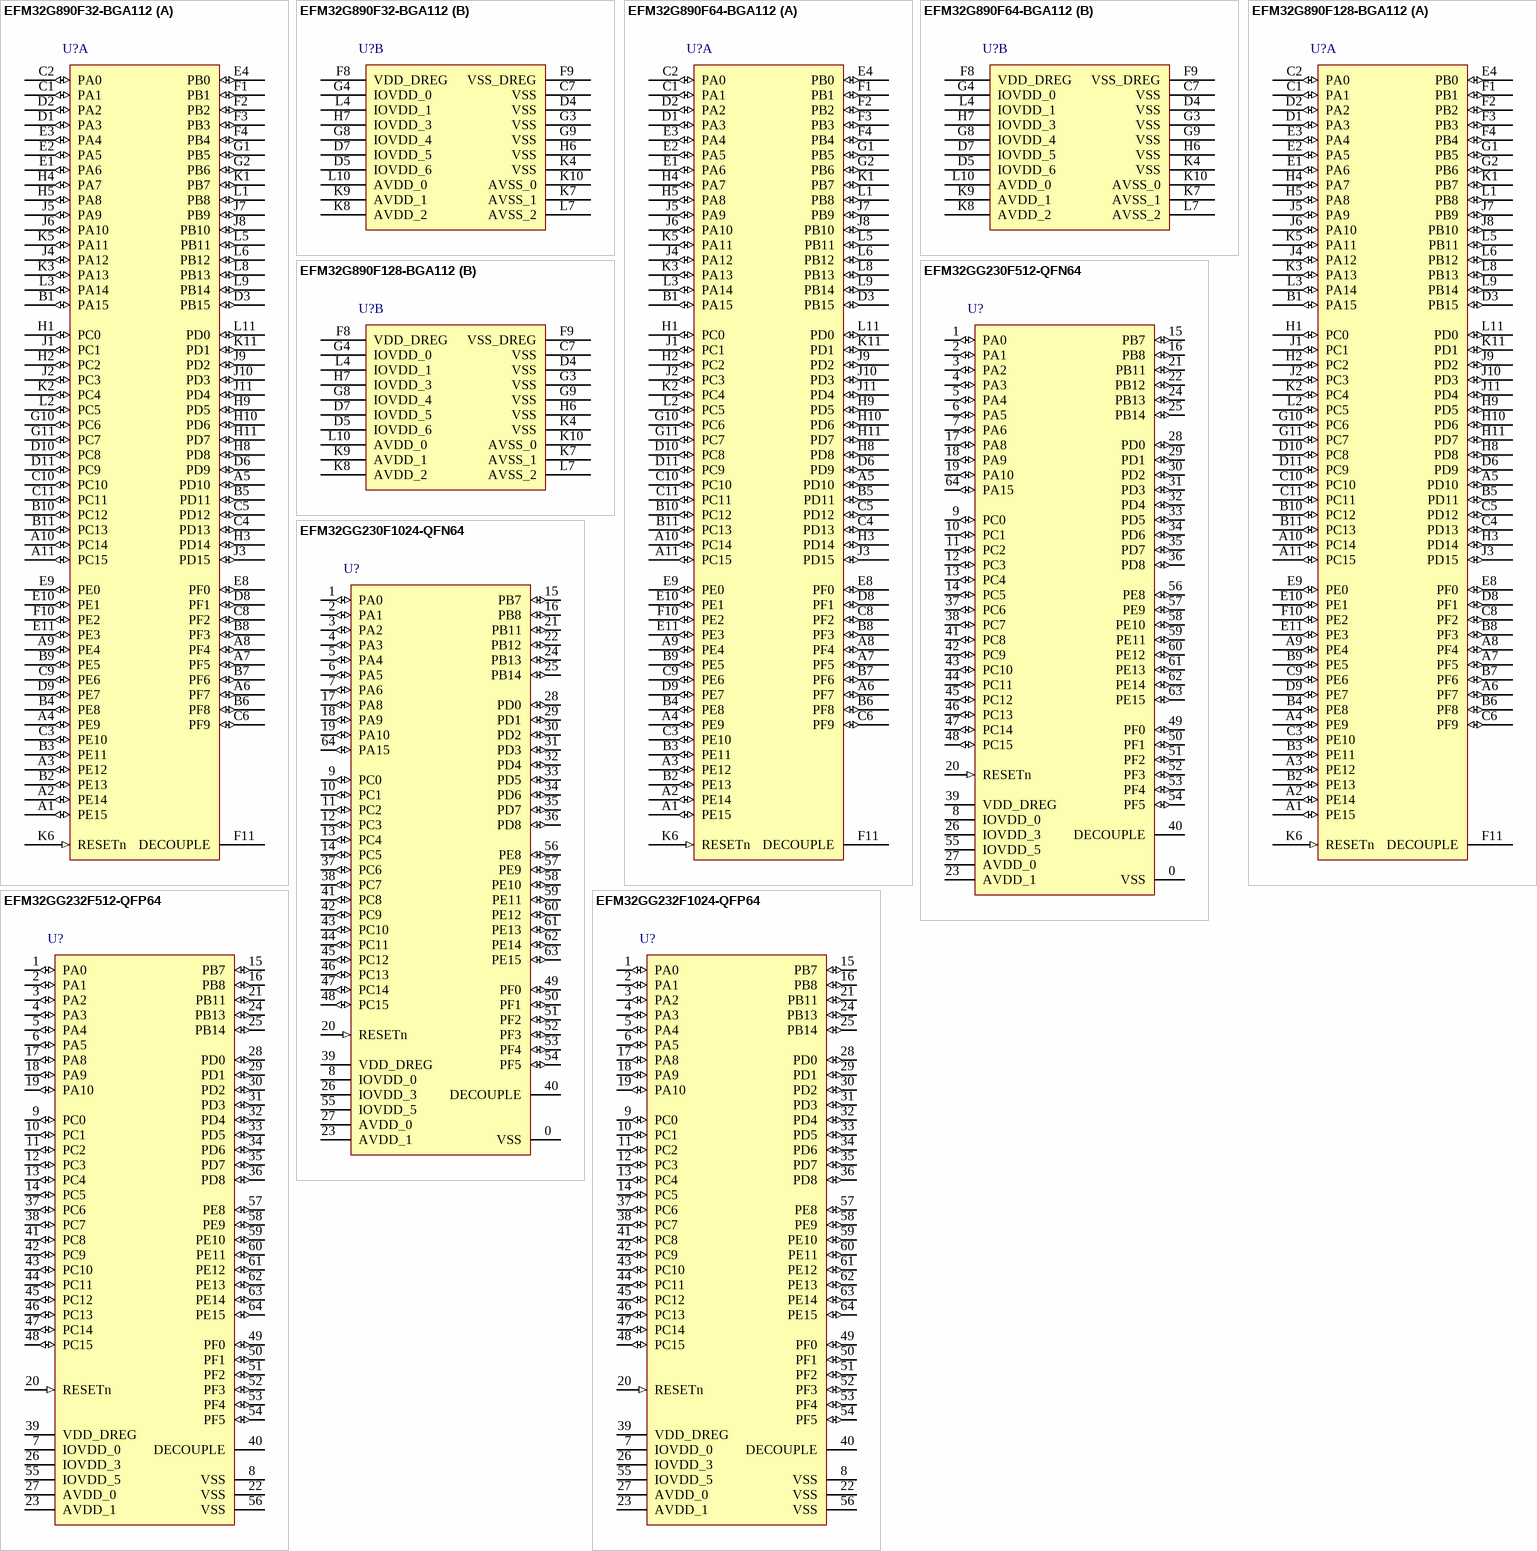
[diagram p4: symbols EFM32G890F32-BGA112 to EFM32GG232F1024-QFP64]

## EFM32G890F32-BGA112
designator U?
EFM32 Gecko, M3 ARM Cortex CPU, 32 KB Flash, 8 KB RAM, 1.85 - 3.8 V Supply, 32 MHz Max Speed, -40 to 85 degC, 112-Pin BGA, RoHS Compliant; Generic Part Number: EFM32G890; PartNumber: EFM32G890F32-BGA112; ADC: Y; Flash (KB): 32; GPIO: 90; LCD: 4x40; RAM (KB): 8; DatasheetVersion: Rev 1.50; PackageVersion: Rev. 97SPP01315A_X03_06Jun11; PackageReference: BGA112; PackageDescription: 112-Pin Ball Grid Array, Body 10 x 10 mm, Pitch 0.8 mm; Supplier 1: Digi-Key; Supplier Part Number 1: EFM32G890F32-ND; Supplier 2: Mouser; Supplier Part Number 2: 904-EFM32G890F32; AES: Y; ARM Cortex CPU: M3; Max Speed (MHz): 32; Subcategory: EFM32 Gecko; Supply Voltage (V): 1.85 - 3.8; Mounting Technology: Surface Mount; ComponentLink1Description: Manufacturer URL; ComponentLink1URL: http://www.energymicro.com/; ComponentLink2Description: Datasheet; ComponentLink2URL: http://cdn.energymicro.com/dl/devices/pdf/d0010_efm32g890_datasheet.pdf; ComponentLink3Description: Package Specification; ComponentLink3URL: http://cdn.energymicro.com/dl/devices/pdf/d0007_efm32g290_datasheet.pdf
footprint ENMR-BGA112 (BGA, 112-Balls, Body 10x10mm, Pitch 0.8mm)
part A pins: A1 PE15 (io) "LCD_SEG11, EBI_AD07#0, LEU0_RX#2", A2 PE14 (io) "LCD_SEG10, EBI_AD06#0, LEU0_TX#2", A3 PE12 (io) "LCD_SEG8, EBI_AD04#0, TIM1_CC2#1, US0_CLK#0", A4 PE9 (io) "LCD_SEG5, EBI_AD01#0, PCNT2_S1IN#1", A5 PD10 (io) "LCD_SEG29, EBI_CS1#0", A6 PF7 (io) "LCD_SEG25, TIM0_CC1#2, U0_RX#0", A7 PF5 (io) "LCD_SEG3, EBI_REn#0, TIM0_CDTI2#2", A8 PF4 (io) "LCD_SEG2, EBI_WEn#0, TIM0_CDTI1#2", A9 PE4 (io) "LCD_COM0, US0_CS#1", A10 PC14 (io) "ACMP1_CH6, TIM0_CDTI1#1/3, TIM1_CC1#0, PCNT0_S1IN#0, U0_TX#3", A11 PC15 (io) "ACMP1_CH7, TIM0_CDTI2#1/3, TIM1_CC2#0, U0_RX#3, DBG_SWO#1", B1 PA15 (io) "LCD_SEG12, EBI_AD08#0", B2 PE13 (io) "LCD_SEG9, EBI_AD05#0, US0_CS#0, ACMP0_O#0", B3 PE11 (io) "LCD_SEG7, EBI_AD03#0, TIM1_CC1#1, US0_RX#0", B4 PE8 (io) "LCD_SEG4, EBI_AD00#0, PCNT2_S0IN#1", B5 PD11 (io) "LCD_SEG30, EBI_CS2#0", B6 PF8 (io) "LCD_SEG26, TIM0_CC2#2", B7 PF6 (io) "LCD_SEG24, TIM0_CC0#2, U0_TX#0", B8 PF3 (io) "LCD_SEG1, EBI_ALE#0, TIM0_CDTI0#2", B9 PE5 (io) "LCD_COM1, US0_CLK#1", B10 PC12 (io) "ACMP1_CH4, CMU_CLK0#1", B11 PC13 (io) "ACMP1_CH5, TIM0_CDTI0#1/3, TIM1_CC0#0, PCNT0_S0IN#0", C1 PA1 (io) "LCD_SEG14, EBI_AD10#0, TIM0_CC1#0/1, I2C0_SCL#0, CMU_CLK1#0", C2 PA0 (io) "LCD_SEG13, EBI_AD09#0, TIM0_CC0#0/1, I2C0_SDA#0", C3 PE10 (io) "LCD_SEG6, EBI_AD02#0, TIM1_CC0#1, US0_TX#0", C4 PD13 (io), C5 PD12 (io) "LCD_SEG31, EBI_CS3#0", C6 PF9 (io) "LCD_SEG27", C8 PF2 (io) "LCD_SEG0, EBI_ARDY#0, ACMP1_O#0, DBG_SWO#0", C9 PE6 (io) "LCD_COM2, US0_RX#1", C10 PC10 (io) "ACMP1_CH2, TIM2_CC2#2, US0_RX#2", C11 PC11 (io) "ACMP1_CH3, US0_TX#2", D1 PA3 (io) "LCD_SEG16, EBI_AD12#0, TIM0_CDTI0#0, U0_TX#2", D2 PA2 (io) "LCD_SEG15, EBI_AD11#0, TIM0_CC2#0/1, CMU_CLK0#0", D3 PB15 (io), D6 PD9 (io) "LCD_SEG28, EBI_CS0#0", D8 PF1 (io) "LETIM0_OUT1#2, DBG_SWDIO#0/1", D9 PE7 (io) "LCD_COM3, US0_TX#1", D10 PC8 (io) "ACMP1_CH0, TIM2_CC0#2, US0_CS#2", D11 PC9 (io) "ACMP1_CH1, TIM2_CC1#2, US0_CLK#2", E1 PA6 (io) "LCD_SEG19, EBI_AD15#0, LEU1_RX#1", E2 PA5 (io) "LCD_SEG18, EBI_AD14#0, TIM0_CDTI2#0, LEU1_TX#1", E3 PA4 (io) "LCD_SEG17, EBI_AD13#0, TIM0_CDTI1#0, U0_RX#2", E4 PB0 (io) "LCD_SEG32, TIM1_CC0#2", E8 PF0 (io) "LETIM0_OUT0#2, DBG_SWCLK#0/1", E9 PE0 (io) "PCNT0_S0IN#1, U0_TX#1", E10 PE1 (io) "PCNT0_S1IN#1, U0_RX#1", E11 PE3 (io) "ACMP1_O#1", F1 PB1 (io) "LCD_SEG33, TIM1_CC1#2", F2 PB2 (io) "LCD_SEG34, TIM1_CC2#2", F3 PB3 (io) "LCD_SEG20, PCNT1_S0IN#1, US2_TX#1", F4 PB4 (io) "LCD_SEG21, PCNT1_S1IN#1, US2_RX#1", F10 PE2 (io) "ACMP0_O#1", F11 DECOUPLE "Decouple output for on-chip voltage regulator. An external capacitance of size CDECOUPLE is required at this pin.", G1 PB5 (io) "LCD_SEG22, US2_CLK#1", G2 PB6 (io) "LCD_SEG23, US2_CS#1", G10 PC6 (io) "ACMP0_CH6, LEU1_TX#0, I2C0_SDA#2", G11 PC7 (io) "ACMP0_CH7, LEU1_RX#0, I2C0_SCL#2", H1 PC0 (io) "ACMP0_CH0, PCNT0_S0IN#2, US1_TX#0", H2 PC2 (io) "ACMP0_CH2, US2_TX#0", H3 PD14 (io) "I2C0_SDA#3", H4 PA7 (io) "LCD_SEG35", H5 PA8 (io) "LCD_SEG36, TIM2_CC0#0", H8 PD8 (io) "CMU_CLK1#1", H9 PD5 (io) "ADC0_CH5, LEU0_RX#0", H10 PD6 (io) "ADC0_CH6, LETIM0_OUT0#0, I2C0_SDA#1", H11 PD7 (io) "ADC0_CH7, LETIM0_OUT1#0, I2C0_SCL#1", J1 PC1 (io) "ACMP0_CH1, PCNT0_S1IN#2, US1_RX#0", J2 PC3 (io) "ACMP0_CH3, US2_RX#0", J3 PD15 (io) "I2C0_SCL#3", J4 PA12 (io) "LCD_BCAP_P, TIM2_CC0#1", J5 PA9 (io) "LCD_SEG37, TIM2_CC1#0", J6 PA10 (io) "LCD_SEG38, TIM2_CC2#0", J7 PB9 (io), J8 PB10 (io), J9 PD2 (io) "ADC0_CH2, TIM0_CC1#3, US1_CLK#1", J10 PD3 (io) "ADC0_CH3, TIM0_CC2#3, US1_CS#1", J11 PD4 (io) "ADC0_CH4, LEU0_TX#0", K1 PB7 (io) "LFXTAL_P, US1_CLK#0", K2 PC4 (io) "ACMP0_CH4, LETIM0_OUT0#3, PCNT1_S0IN#0, US2_CLK#0", K3 PA13 (io) "LCD_BCAP_N, TIM2_CC1#1", K5 PA11 (io) "LCD_SEG39", K6 RESETn (in) "Reset input.Active low, with internal pull-up.", K11 PD1 (io) "ADC0_CH1, TIM0_CC0#3, PCNT2_S1IN#0, US1_RX#1", L1 PB8 (io) "LFXTAL_N, US1_CS#0", L2 PC5 (io) "ACMP0_CH5, LETIM0_OUT1#3, PCNT1_S1IN#0, US2_CS#0", L3 PA14 (io) "LCD_BEXT, TIM2_CC2#1", L5 PB11 (io) "DAC0_OUT0, LETIM0_OUT0#1", L6 PB12 (io) "DAC0_OUT1, LETIM0_OUT1#1", L8 PB13 (io) "HFXTAL_P, LEU0_TX#1", L9 PB14 (io) "HFXTAL_N, LEU0_RX#1", L11 PD0 (io) "ADC0_CH0, PCNT2_S0IN#0, US1_TX#1"
part B pins: C7 VSS (power) "Ground", D4 VSS (power) "Ground", D5 IOVDD_6 (power) "Digital IO power supply 6.", D7 IOVDD_5 (power) "Digital IO power supply 5.", F8 VDD_DREG (power) "Power supply for on-chip voltage regulator.", F9 VSS_DREG (power) "Ground for on-chip voltage regulator.", G3 VSS (power) "Ground", G4 IOVDD_0 (power) "Digital IO power supply 0.", G8 IOVDD_4 (power) "Digital IO power supply 4.", G9 VSS (power) "Ground", H6 VSS (power) "Ground", H7 IOVDD_3 (power) "Digital IO power supply 3.", K4 VSS (power) "Ground", K7 AVSS_1 (power) "Analog ground 1.", K8 AVDD_2 (power) "Analog power supply 2.", K9 AVDD_1 (power) "Analog power supply 1.", K10 AVSS_0 (power) "Analog ground 0.", L4 IOVDD_1 (power) "Digital IO power supply 1.", L7 AVSS_2 (power) "Analog ground 2.", L10 AVDD_0 (power) "Analog power supply 0."

## EFM32G890F64-BGA112
designator U?
EFM32 Gecko, M3 ARM Cortex CPU, 64 KB Flash, 16 KB RAM, 1.85 - 3.8 V Supply, 32 MHz Max Speed, -40 to 85 degC, 112-Pin BGA, RoHS Compliant; Generic Part Number: EFM32G890; PartNumber: EFM32G890F64-BGA112; ADC: Y; Flash (KB): 64; GPIO: 90; LCD: 4x40; Max Speed (MHz): 32; RAM (KB): 16; DatasheetVersion: Rev 1.50; PackageVersion: Rev. 97SPP01315A_X03_06Jun11; PackageReference: BGA112; PackageDescription: 112-Pin Ball Grid Array, Body 10 x 10 mm, Pitch 0.8 mm; Supplier 1: Digi-Key; Supplier Part Number 1: EFM32G890F64-ND; Supplier 2: Mouser; Supplier Part Number 2: 904-EFM32G890F64; AES: Y; ARM Cortex CPU: M3; Subcategory: EFM32 Gecko; Supply Voltage (V): 1.85 - 3.8; Mounting Technology: Surface Mount; ComponentLink1Description: Manufacturer URL; ComponentLink1URL: http://www.energymicro.com/; ComponentLink2Description: Datasheet; ComponentLink2URL: http://cdn.energymicro.com/dl/devices/pdf/d0010_efm32g890_datasheet.pdf; ComponentLink3Description: Package Specification; ComponentLink3URL: http://cdn.energymicro.com/dl/devices/pdf/d0007_efm32g290_datasheet.pdf
footprint ENMR-BGA112 (BGA, 112-Balls, Body 10x10mm, Pitch 0.8mm)
part A pins: A1 PE15 (io) "LCD_SEG11, EBI_AD07#0, LEU0_RX#2", A2 PE14 (io) "LCD_SEG10, EBI_AD06#0, LEU0_TX#2", A3 PE12 (io) "LCD_SEG8, EBI_AD04#0, TIM1_CC2#1, US0_CLK#0", A4 PE9 (io) "LCD_SEG5, EBI_AD01#0, PCNT2_S1IN#1", A5 PD10 (io) "LCD_SEG29, EBI_CS1#0", A6 PF7 (io) "LCD_SEG25, TIM0_CC1#2, U0_RX#0", A7 PF5 (io) "LCD_SEG3, EBI_REn#0, TIM0_CDTI2#2", A8 PF4 (io) "LCD_SEG2, EBI_WEn#0, TIM0_CDTI1#2", A9 PE4 (io) "LCD_COM0, US0_CS#1", A10 PC14 (io) "ACMP1_CH6, TIM0_CDTI1#1/3, TIM1_CC1#0, PCNT0_S1IN#0, U0_TX#3", A11 PC15 (io) "ACMP1_CH7, TIM0_CDTI2#1/3, TIM1_CC2#0, U0_RX#3, DBG_SWO#1", B1 PA15 (io) "LCD_SEG12, EBI_AD08#0", B2 PE13 (io) "LCD_SEG9, EBI_AD05#0, US0_CS#0, ACMP0_O#0", B3 PE11 (io) "LCD_SEG7, EBI_AD03#0, TIM1_CC1#1, US0_RX#0", B4 PE8 (io) "LCD_SEG4, EBI_AD00#0, PCNT2_S0IN#1", B5 PD11 (io) "LCD_SEG30, EBI_CS2#0", B6 PF8 (io) "LCD_SEG26, TIM0_CC2#2", B7 PF6 (io) "LCD_SEG24, TIM0_CC0#2, U0_TX#0", B8 PF3 (io) "LCD_SEG1, EBI_ALE#0, TIM0_CDTI0#2", B9 PE5 (io) "LCD_COM1, US0_CLK#1", B10 PC12 (io) "ACMP1_CH4, CMU_CLK0#1", B11 PC13 (io) "ACMP1_CH5, TIM0_CDTI0#1/3, TIM1_CC0#0, PCNT0_S0IN#0", C1 PA1 (io) "LCD_SEG14, EBI_AD10#0, TIM0_CC1#0/1, I2C0_SCL#0, CMU_CLK1#0", C2 PA0 (io) "LCD_SEG13, EBI_AD09#0, TIM0_CC0#0/1, I2C0_SDA#0", C3 PE10 (io) "LCD_SEG6, EBI_AD02#0, TIM1_CC0#1, US0_TX#0", C4 PD13 (io), C5 PD12 (io) "LCD_SEG31, EBI_CS3#0", C6 PF9 (io) "LCD_SEG27", C8 PF2 (io) "LCD_SEG0, EBI_ARDY#0, ACMP1_O#0, DBG_SWO#0", C9 PE6 (io) "LCD_COM2, US0_RX#1", C10 PC10 (io) "ACMP1_CH2, TIM2_CC2#2, US0_RX#2", C11 PC11 (io) "ACMP1_CH3, US0_TX#2", D1 PA3 (io) "LCD_SEG16, EBI_AD12#0, TIM0_CDTI0#0, U0_TX#2", D2 PA2 (io) "LCD_SEG15, EBI_AD11#0, TIM0_CC2#0/1, CMU_CLK0#0", D3 PB15 (io), D6 PD9 (io) "LCD_SEG28, EBI_CS0#0", D8 PF1 (io) "LETIM0_OUT1#2, DBG_SWDIO#0/1", D9 PE7 (io) "LCD_COM3, US0_TX#1", D10 PC8 (io) "ACMP1_CH0, TIM2_CC0#2, US0_CS#2", D11 PC9 (io) "ACMP1_CH1, TIM2_CC1#2, US0_CLK#2", E1 PA6 (io) "LCD_SEG19, EBI_AD15#0, LEU1_RX#1", E2 PA5 (io) "LCD_SEG18, EBI_AD14#0, TIM0_CDTI2#0, LEU1_TX#1", E3 PA4 (io) "LCD_SEG17, EBI_AD13#0, TIM0_CDTI1#0, U0_RX#2", E4 PB0 (io) "LCD_SEG32, TIM1_CC0#2", E8 PF0 (io) "LETIM0_OUT0#2, DBG_SWCLK#0/1", E9 PE0 (io) "PCNT0_S0IN#1, U0_TX#1", E10 PE1 (io) "PCNT0_S1IN#1, U0_RX#1", E11 PE3 (io) "ACMP1_O#1", F1 PB1 (io) "LCD_SEG33, TIM1_CC1#2", F2 PB2 (io) "LCD_SEG34, TIM1_CC2#2", F3 PB3 (io) "LCD_SEG20, PCNT1_S0IN#1, US2_TX#1", F4 PB4 (io) "LCD_SEG21, PCNT1_S1IN#1, US2_RX#1", F10 PE2 (io) "ACMP0_O#1", F11 DECOUPLE "Decouple output for on-chip voltage regulator. An external capacitance of size CDECOUPLE is required at this pin.", G1 PB5 (io) "LCD_SEG22, US2_CLK#1", G2 PB6 (io) "LCD_SEG23, US2_CS#1", G10 PC6 (io) "ACMP0_CH6, LEU1_TX#0, I2C0_SDA#2", G11 PC7 (io) "ACMP0_CH7, LEU1_RX#0, I2C0_SCL#2", H1 PC0 (io) "ACMP0_CH0, PCNT0_S0IN#2, US1_TX#0", H2 PC2 (io) "ACMP0_CH2, US2_TX#0", H3 PD14 (io) "I2C0_SDA#3", H4 PA7 (io) "LCD_SEG35", H5 PA8 (io) "LCD_SEG36, TIM2_CC0#0", H8 PD8 (io) "CMU_CLK1#1", H9 PD5 (io) "ADC0_CH5, LEU0_RX#0", H10 PD6 (io) "ADC0_CH6, LETIM0_OUT0#0, I2C0_SDA#1", H11 PD7 (io) "ADC0_CH7, LETIM0_OUT1#0, I2C0_SCL#1", J1 PC1 (io) "ACMP0_CH1, PCNT0_S1IN#2, US1_RX#0", J2 PC3 (io) "ACMP0_CH3, US2_RX#0", J3 PD15 (io) "I2C0_SCL#3", J4 PA12 (io) "LCD_BCAP_P, TIM2_CC0#1", J5 PA9 (io) "LCD_SEG37, TIM2_CC1#0", J6 PA10 (io) "LCD_SEG38, TIM2_CC2#0", J7 PB9 (io), J8 PB10 (io), J9 PD2 (io) "ADC0_CH2, TIM0_CC1#3, US1_CLK#1", J10 PD3 (io) "ADC0_CH3, TIM0_CC2#3, US1_CS#1", J11 PD4 (io) "ADC0_CH4, LEU0_TX#0", K1 PB7 (io) "LFXTAL_P, US1_CLK#0", K2 PC4 (io) "ACMP0_CH4, LETIM0_OUT0#3, PCNT1_S0IN#0, US2_CLK#0", K3 PA13 (io) "LCD_BCAP_N, TIM2_CC1#1", K5 PA11 (io) "LCD_SEG39", K6 RESETn (in) "Reset input.Active low, with internal pull-up.", K11 PD1 (io) "ADC0_CH1, TIM0_CC0#3, PCNT2_S1IN#0, US1_RX#1", L1 PB8 (io) "LFXTAL_N, US1_CS#0", L2 PC5 (io) "ACMP0_CH5, LETIM0_OUT1#3, PCNT1_S1IN#0, US2_CS#0", L3 PA14 (io) "LCD_BEXT, TIM2_CC2#1", L5 PB11 (io) "DAC0_OUT0, LETIM0_OUT0#1", L6 PB12 (io) "DAC0_OUT1, LETIM0_OUT1#1", L8 PB13 (io) "HFXTAL_P, LEU0_TX#1", L9 PB14 (io) "HFXTAL_N, LEU0_RX#1", L11 PD0 (io) "ADC0_CH0, PCNT2_S0IN#0, US1_TX#1"
part B pins: C7 VSS (power) "Ground", D4 VSS (power) "Ground", D5 IOVDD_6 (power) "Digital IO power supply 6.", D7 IOVDD_5 (power) "Digital IO power supply 5.", F8 VDD_DREG (power) "Power supply for on-chip voltage regulator.", F9 VSS_DREG (power) "Ground for on-chip voltage regulator.", G3 VSS (power) "Ground", G4 IOVDD_0 (power) "Digital IO power supply 0.", G8 IOVDD_4 (power) "Digital IO power supply 4.", G9 VSS (power) "Ground", H6 VSS (power) "Ground", H7 IOVDD_3 (power) "Digital IO power supply 3.", K4 VSS (power) "Ground", K7 AVSS_1 (power) "Analog ground 1.", K8 AVDD_2 (power) "Analog power supply 2.", K9 AVDD_1 (power) "Analog power supply 1.", K10 AVSS_0 (power) "Analog ground 0.", L4 IOVDD_1 (power) "Digital IO power supply 1.", L7 AVSS_2 (power) "Analog ground 2.", L10 AVDD_0 (power) "Analog power supply 0."

## EFM32G890F128-BGA112
designator U?
EFM32 Gecko, M3 ARM Cortex CPU, 128 KB Flash, 16 KB RAM, 1.85 - 3.8 V Supply, 32 MHz Max Speed, -40 to 85 degC, 112-Pin BGA, RoHS Compliant; Generic Part Number: EFM32G890; PartNumber: EFM32G890F128-BGA112; ADC: Y; Flash (KB): 128; GPIO: 90; LCD: 4x40; Max Speed (MHz): 32; RAM (KB): 16; DatasheetVersion: Rev 1.50; PackageVersion: Rev. 97SPP01315A_X03_06Jun11; PackageReference: BGA112; PackageDescription: 112-Pin Ball Grid Array, Body 10 x 10 mm, Pitch 0.8 mm; Supplier 1: Digi-Key; Supplier Part Number 1: 914-1017-2-ND; Supplier 2: Digi-Key; Supplier Part Number 2: 914-1017-1-ND; Supplier 3: Digi-Key; Supplier Part Number 3: 914-1017-6-ND; Supplier 4: Mouser; Supplier Part Number 4: 904-EFM32G890F128; AES: Y; ARM Cortex CPU: M3; Subcategory: EFM32 Gecko; Supply Voltage (V): 1.85 - 3.8; Mounting Technology: Surface Mount; ComponentLink1Description: Manufacturer URL; ComponentLink1URL: http://www.energymicro.com/; ComponentLink2Description: Datasheet; ComponentLink2URL: http://cdn.energymicro.com/dl/devices/pdf/d0010_efm32g890_datasheet.pdf; ComponentLink3Description: Package Specification; ComponentLink3URL: http://cdn.energymicro.com/dl/devices/pdf/d0007_efm32g290_datasheet.pdf
footprint ENMR-BGA112 (BGA, 112-Balls, Body 10x10mm, Pitch 0.8mm)
part A pins: A1 PE15 (io) "LCD_SEG11, EBI_AD07#0, LEU0_RX#2", A2 PE14 (io) "LCD_SEG10, EBI_AD06#0, LEU0_TX#2", A3 PE12 (io) "LCD_SEG8, EBI_AD04#0, TIM1_CC2#1, US0_CLK#0", A4 PE9 (io) "LCD_SEG5, EBI_AD01#0, PCNT2_S1IN#1", A5 PD10 (io) "LCD_SEG29, EBI_CS1#0", A6 PF7 (io) "LCD_SEG25, TIM0_CC1#2, U0_RX#0", A7 PF5 (io) "LCD_SEG3, EBI_REn#0, TIM0_CDTI2#2", A8 PF4 (io) "LCD_SEG2, EBI_WEn#0, TIM0_CDTI1#2", A9 PE4 (io) "LCD_COM0, US0_CS#1", A10 PC14 (io) "ACMP1_CH6, TIM0_CDTI1#1/3, TIM1_CC1#0, PCNT0_S1IN#0, U0_TX#3", A11 PC15 (io) "ACMP1_CH7, TIM0_CDTI2#1/3, TIM1_CC2#0, U0_RX#3, DBG_SWO#1", B1 PA15 (io) "LCD_SEG12, EBI_AD08#0", B2 PE13 (io) "LCD_SEG9, EBI_AD05#0, US0_CS#0, ACMP0_O#0", B3 PE11 (io) "LCD_SEG7, EBI_AD03#0, TIM1_CC1#1, US0_RX#0", B4 PE8 (io) "LCD_SEG4, EBI_AD00#0, PCNT2_S0IN#1", B5 PD11 (io) "LCD_SEG30, EBI_CS2#0", B6 PF8 (io) "LCD_SEG26, TIM0_CC2#2", B7 PF6 (io) "LCD_SEG24, TIM0_CC0#2, U0_TX#0", B8 PF3 (io) "LCD_SEG1, EBI_ALE#0, TIM0_CDTI0#2", B9 PE5 (io) "LCD_COM1, US0_CLK#1", B10 PC12 (io) "ACMP1_CH4, CMU_CLK0#1", B11 PC13 (io) "ACMP1_CH5, TIM0_CDTI0#1/3, TIM1_CC0#0, PCNT0_S0IN#0", C1 PA1 (io) "LCD_SEG14, EBI_AD10#0, TIM0_CC1#0/1, I2C0_SCL#0, CMU_CLK1#0", C2 PA0 (io) "LCD_SEG13, EBI_AD09#0, TIM0_CC0#0/1, I2C0_SDA#0", C3 PE10 (io) "LCD_SEG6, EBI_AD02#0, TIM1_CC0#1, US0_TX#0", C4 PD13 (io), C5 PD12 (io) "LCD_SEG31, EBI_CS3#0", C6 PF9 (io) "LCD_SEG27", C8 PF2 (io) "LCD_SEG0, EBI_ARDY#0, ACMP1_O#0, DBG_SWO#0", C9 PE6 (io) "LCD_COM2, US0_RX#1", C10 PC10 (io) "ACMP1_CH2, TIM2_CC2#2, US0_RX#2", C11 PC11 (io) "ACMP1_CH3, US0_TX#2", D1 PA3 (io) "LCD_SEG16, EBI_AD12#0, TIM0_CDTI0#0, U0_TX#2", D2 PA2 (io) "LCD_SEG15, EBI_AD11#0, TIM0_CC2#0/1, CMU_CLK0#0", D3 PB15 (io), D6 PD9 (io) "LCD_SEG28, EBI_CS0#0", D8 PF1 (io) "LETIM0_OUT1#2, DBG_SWDIO#0/1", D9 PE7 (io) "LCD_COM3, US0_TX#1", D10 PC8 (io) "ACMP1_CH0, TIM2_CC0#2, US0_CS#2", D11 PC9 (io) "ACMP1_CH1, TIM2_CC1#2, US0_CLK#2", E1 PA6 (io) "LCD_SEG19, EBI_AD15#0, LEU1_RX#1", E2 PA5 (io) "LCD_SEG18, EBI_AD14#0, TIM0_CDTI2#0, LEU1_TX#1", E3 PA4 (io) "LCD_SEG17, EBI_AD13#0, TIM0_CDTI1#0, U0_RX#2", E4 PB0 (io) "LCD_SEG32, TIM1_CC0#2", E8 PF0 (io) "LETIM0_OUT0#2, DBG_SWCLK#0/1", E9 PE0 (io) "PCNT0_S0IN#1, U0_TX#1", E10 PE1 (io) "PCNT0_S1IN#1, U0_RX#1", E11 PE3 (io) "ACMP1_O#1", F1 PB1 (io) "LCD_SEG33, TIM1_CC1#2", F2 PB2 (io) "LCD_SEG34, TIM1_CC2#2", F3 PB3 (io) "LCD_SEG20, PCNT1_S0IN#1, US2_TX#1", F4 PB4 (io) "LCD_SEG21, PCNT1_S1IN#1, US2_RX#1", F10 PE2 (io) "ACMP0_O#1", F11 DECOUPLE "Decouple output for on-chip voltage regulator. An external capacitance of size CDECOUPLE is required at this pin.", G1 PB5 (io) "LCD_SEG22, US2_CLK#1", G2 PB6 (io) "LCD_SEG23, US2_CS#1", G10 PC6 (io) "ACMP0_CH6, LEU1_TX#0, I2C0_SDA#2", G11 PC7 (io) "ACMP0_CH7, LEU1_RX#0, I2C0_SCL#2", H1 PC0 (io) "ACMP0_CH0, PCNT0_S0IN#2, US1_TX#0", H2 PC2 (io) "ACMP0_CH2, US2_TX#0", H3 PD14 (io) "I2C0_SDA#3", H4 PA7 (io) "LCD_SEG35", H5 PA8 (io) "LCD_SEG36, TIM2_CC0#0", H8 PD8 (io) "CMU_CLK1#1", H9 PD5 (io) "ADC0_CH5, LEU0_RX#0", H10 PD6 (io) "ADC0_CH6, LETIM0_OUT0#0, I2C0_SDA#1", H11 PD7 (io) "ADC0_CH7, LETIM0_OUT1#0, I2C0_SCL#1", J1 PC1 (io) "ACMP0_CH1, PCNT0_S1IN#2, US1_RX#0", J2 PC3 (io) "ACMP0_CH3, US2_RX#0", J3 PD15 (io) "I2C0_SCL#3", J4 PA12 (io) "LCD_BCAP_P, TIM2_CC0#1", J5 PA9 (io) "LCD_SEG37, TIM2_CC1#0", J6 PA10 (io) "LCD_SEG38, TIM2_CC2#0", J7 PB9 (io), J8 PB10 (io), J9 PD2 (io) "ADC0_CH2, TIM0_CC1#3, US1_CLK#1", J10 PD3 (io) "ADC0_CH3, TIM0_CC2#3, US1_CS#1", J11 PD4 (io) "ADC0_CH4, LEU0_TX#0", K1 PB7 (io) "LFXTAL_P, US1_CLK#0", K2 PC4 (io) "ACMP0_CH4, LETIM0_OUT0#3, PCNT1_S0IN#0, US2_CLK#0", K3 PA13 (io) "LCD_BCAP_N, TIM2_CC1#1", K5 PA11 (io) "LCD_SEG39", K6 RESETn (in) "Reset input.Active low, with internal pull-up.", K11 PD1 (io) "ADC0_CH1, TIM0_CC0#3, PCNT2_S1IN#0, US1_RX#1", L1 PB8 (io) "LFXTAL_N, US1_CS#0", L2 PC5 (io) "ACMP0_CH5, LETIM0_OUT1#3, PCNT1_S1IN#0, US2_CS#0", L3 PA14 (io) "LCD_BEXT, TIM2_CC2#1", L5 PB11 (io) "DAC0_OUT0, LETIM0_OUT0#1", L6 PB12 (io) "DAC0_OUT1, LETIM0_OUT1#1", L8 PB13 (io) "HFXTAL_P, LEU0_TX#1", L9 PB14 (io) "HFXTAL_N, LEU0_RX#1", L11 PD0 (io) "ADC0_CH0, PCNT2_S0IN#0, US1_TX#1"
part B pins: C7 VSS (power) "Ground", D4 VSS (power) "Ground", D5 IOVDD_6 (power) "Digital IO power supply 6.", D7 IOVDD_5 (power) "Digital IO power supply 5.", F8 VDD_DREG (power) "Power supply for on-chip voltage regulator.", F9 VSS_DREG (power) "Ground for on-chip voltage regulator.", G3 VSS (power) "Ground", G4 IOVDD_0 (power) "Digital IO power supply 0.", G8 IOVDD_4 (power) "Digital IO power supply 4.", G9 VSS (power) "Ground", H6 VSS (power) "Ground", H7 IOVDD_3 (power) "Digital IO power supply 3.", K4 VSS (power) "Ground", K7 AVSS_1 (power) "Analog ground 1.", K8 AVDD_2 (power) "Analog power supply 2.", K9 AVDD_1 (power) "Analog power supply 1.", K10 AVSS_0 (power) "Analog ground 0.", L4 IOVDD_1 (power) "Digital IO power supply 1.", L7 AVSS_2 (power) "Analog ground 2.", L10 AVDD_0 (power) "Analog power supply 0."